# Altium integrated library Xilinx XC4000E.IntLib: 265 symbols (part 24 of 27)
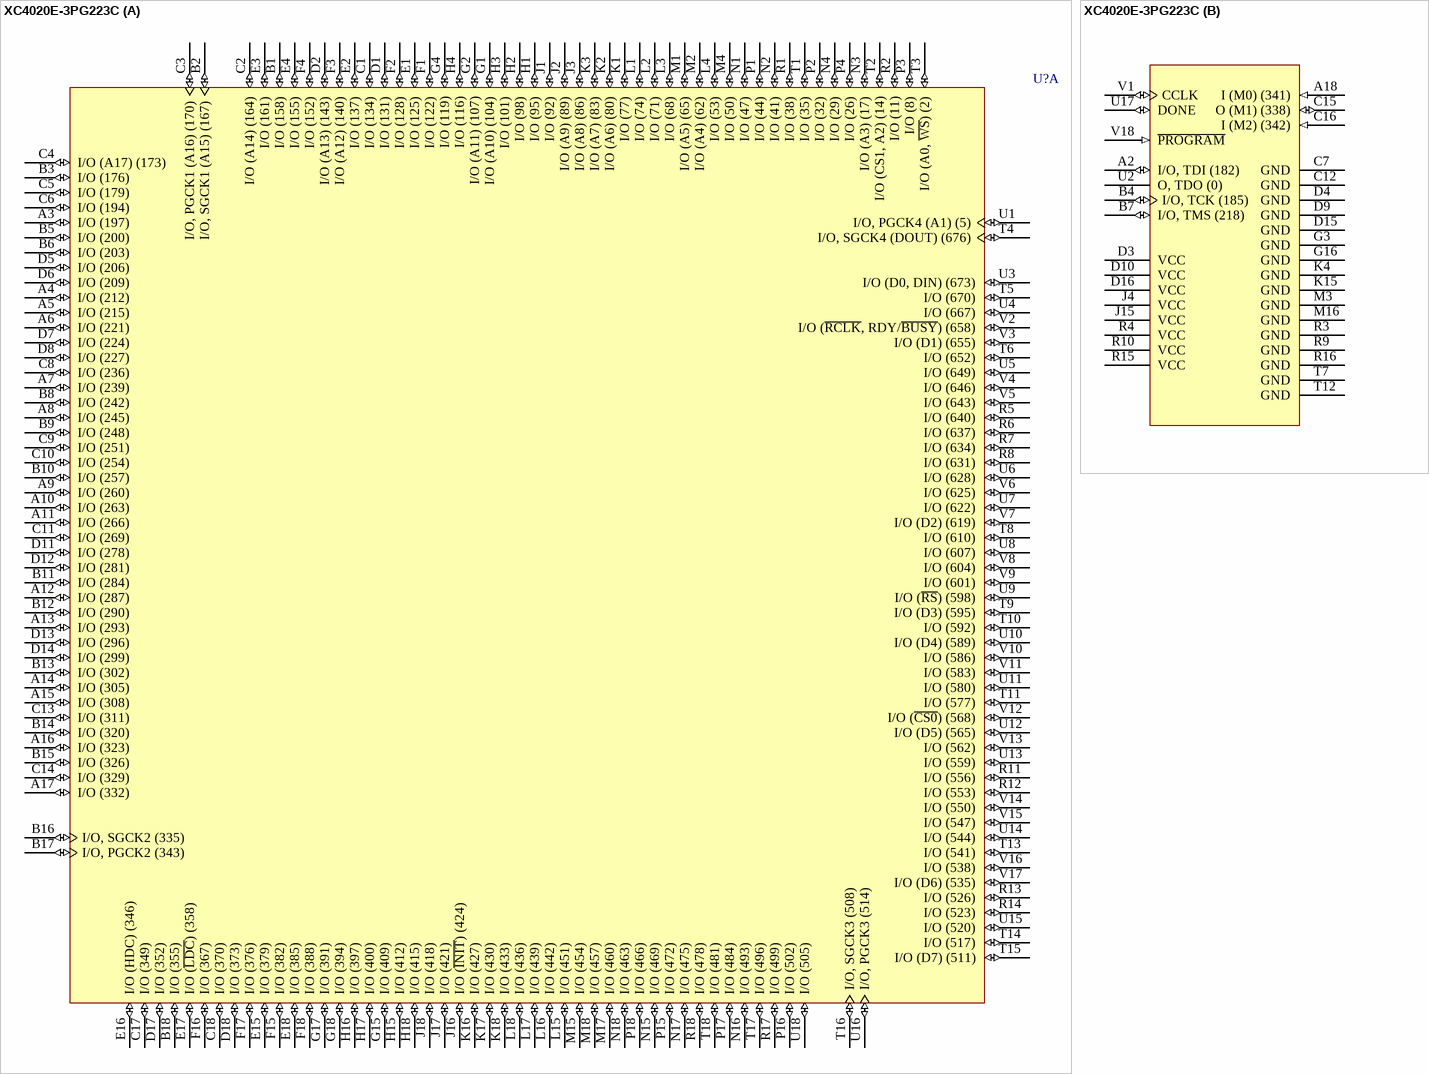
[diagram p294: symbol XC4020E-3PG223C]

## XC4020E-3PG223C
designator U?
XC4000E FPGA, 192 I/Os, 223-Pin PGA, Speed Grade 3, Commercial Grade; Published: 28-Feb-2003; LatestRevisionDate: 04-Mar-2005; LatestRevisionNote: Stylized 3D Model Added.; DatasheetVersion: ver1.6, May-1999; PackageVersion: ver1.0, Jun-2000; PackageReference: PG223; Publisher: Altium Limited; PackageDescription: 223-Pin Ceramic Pin Grid Array (PG223); Supplier 1: Digi-Key; Supplier Part Number 1: XC4020E-3PG223C-ND; ComponentLink1Description: XC4000E Datasheet; ComponentLink1URL: http://www.xilinx.com/support/documentation/data_sheets/4000.pdf; ComponentLink2Description: Discontinuation Notice; ComponentLink2URL: http://www.xilinx.com/support/documentation/customer_notices/pdn2002-03.pdf; ComponentLink3Description: PG223 Package Drawing; ComponentLink3URL: http://www.xilinx.com/support/documentation/package_specs/pg223.pdf; ComponentLink4Description: XC4000 Documents; ComponentLink4URL: http://www.xilinx.com/support/documentation/xc4000.htm; ComponentLink5Description: Xilinx.com Home; ComponentLink5URL: http://www.xilinx.com
footprint PG223 (PGA, 223-Leads, Body 47x47mm, Pitch 2.54mm)
part A pins: A3 I/O (197) (io), A4 I/O (212) (io), A5 I/O (215) (io), A6 I/O (221) (io), A7 I/O (239) (io), A8 I/O (245) (io), A9 I/O (260) (io), A10 I/O (263) (io), A11 I/O (266) (io), A12 I/O (287) (io), A13 I/O (293) (io), A14 I/O (305) (io), A15 I/O (308) (io), A16 I/O (323) (io), A17 I/O (332) (io), B1 I/O (158) (io), B2 I/O, SGCK1 (A15) (167) (io), B3 I/O (176) (io), B5 I/O (200) (io), B6 I/O (203) (io), B8 I/O (242) (io), B9 I/O (248) (io), B10 I/O (257) (io), B11 I/O (284) (io), B12 I/O (290) (io), B13 I/O (302) (io), B14 I/O (320) (io), B15 I/O (326) (io), B16 I/O, SGCK2 (335) (io), B17 I/O, PGCK2 (343) (io), B18 I/O (355) (io), C1 I/O (134) (io), C2 I/O (A14) (164) (io), C3 I/O, PGCK1 (A16) (170) (io), C4 I/O (A17) (173) (io), C5 I/O (179) (io), C6 I/O (194) (io), C8 I/O (236) (io), C9 I/O (251) (io), C10 I/O (254) (io), C11 I/O (269) (io), C13 I/O (311) (io), C14 I/O (329) (io), C17 I/O (349) (io), C18 I/O (370) (io), D1 I/O (131) (io), D2 I/O (A13) (143) (io), D5 I/O (206) (io), D6 I/O (209) (io), D7 I/O (224) (io), D8 I/O (227) (io), D11 I/O (278) (io), D12 I/O (281) (io), D13 I/O (296) (io), D14 I/O (299) (io), D17 I/O (352) (io), D18 I/O (373) (io), E1 I/O (125) (io), E2 I/O (137) (io), E3 I/O (161) (io), E4 I/O (155) (io), E15 I/O (379) (io), E16 I/O (HDC) (346) (io), E17 I/O (~{LDC}) (358) (io), E18 I/O (385) (io), F1 I/O (122) (io), F2 I/O (128) (io), F3 I/O (A12) (140) (io), F4 I/O (152) (io), F15 I/O (382) (io), F16 I/O (367) (io), F17 I/O (376) (io), F18 I/O (388) (io), G1 I/O (A10) (104) (io), G2 I/O (A11) (107) (io), G4 I/O (119) (io), G15 I/O (409) (io), G17 I/O (391) (io), G18 I/O (394) (io), H1 I/O (95) (io), H2 I/O (98) (io), H3 I/O (101) (io), H4 I/O (116) (io), H15 I/O (412) (io), H16 I/O (397) (io), H17 I/O (400) (io), H18 I/O (415) (io), J1 I/O (92) (io), J2 I/O (A9) (89) (io), J3 I/O (A8) (86) (io), J16 I/O (~{INIT}) (424) (io), J17 I/O (421) (io), J18 I/O (418) (io), K1 I/O (77) (io), K2 I/O (A6) (80) (io), K3 I/O (A7) (83) (io), K16 I/O (427) (io), K17 I/O (430) (io), K18 I/O (433) (io), L1 I/O (74) (io), L2 I/O (71) (io), L3 I/O (68) (io), L4 I/O (53) (io), L15 I/O (451) (io), L16 I/O (442) (io), L17 I/O (439) (io), L18 I/O (436) (io), M1 I/O (A5) (65) (io), M2 I/O (A4) (62) (io), M4 I/O (50) (io), M15 I/O (454) (io), M17 I/O (460) (io), M18 I/O (457) (io), N1 I/O (47) (io), N2 I/O (41) (io), N3 I/O (A3) (17) (io), N4 I/O (29) (io), N15 I/O (469) (io), N16 I/O (493) (io), N17 I/O (475) (io), N18 I/O (463) (io), P1 I/O (44) (io), P2 I/O (32) (io), P3 I/O (8) (io), P4 I/O (26) (io), P15 I/O (472) (io), P16 I/O (502) (io), P17 I/O (484) (io), P18 I/O (466) (io), R1 I/O (38) (io), R2 I/O (11) (io), R5 I/O (640) (io), R6 I/O (637) (io), R7 I/O (634) (io), R8 I/O (631) (io), R11 I/O (556) (io), R12 I/O (553) (io), R13 I/O (526) (io), R14 I/O (523) (io), R17 I/O (499) (io), R18 I/O (478) (io), T1 I/O (35) (io), T2 I/O (CS1, A2) (14) (io), T3 I/O (A0, ~{WS}) (2) (io), T4 I/O, SGCK4 (DOUT) (676) (io), T5 I/O (670) (io), T6 I/O (652) (io), T8 I/O (610) (io), T9 I/O (D3) (595) (io), T10 I/O (592) (io), T11 I/O (577) (io), T13 I/O (541) (io), T14 I/O (517) (io), T15 I/O (D7) (511) (io), T16 I/O, SGCK3 (508) (io), T17 I/O (496) (io), T18 I/O (481) (io), U1 I/O, PGCK4 (A1) (5) (io), U3 I/O (D0, DIN) (673) (io), U4 I/O (667) (io), U5 I/O (649) (io), U6 I/O (628) (io), U7 I/O (622) (io), U8 I/O (607) (io), U9 I/O (~{RS}) (598) (io), U10 I/O (D4) (589) (io), U11 I/O (580) (io), U12 I/O (D5) (565) (io), U13 I/O (559) (io), U14 I/O (544) (io), U15 I/O (520) (io), U16 I/O, PGCK3 (514) (io), U18 I/O (505) (io), V2 I/O (~{RCLK}, RDY/~{BUSY}) (658) (io), V3 I/O (D1) (655) (io), V4 I/O (646) (io), V5 I/O (643) (io), V6 I/O (625) (io), V7 I/O (D2) (619) (io), V8 I/O (604) (io), V9 I/O (601) (io), V10 I/O (586) (io), V11 I/O (583) (io), V12 I/O (~{CS0}) (568) (io), V13 I/O (562) (io), V14 I/O (550) (io), V15 I/O (547) (io), V16 I/O (538) (io), V17 I/O (D6) (535) (io)
part B pins: A2 I/O, TDI (182) (io), A18 I (M0) (341) (in), B4 I/O, TCK (185) (io), B7 I/O, TMS (218) (io), C7 GND (power), C12 GND (power), C15 O (M1) (338) (io), C16 I (M2) (342) (in), D3 VCC (power), D4 GND (power), D9 GND (power), D10 VCC (power), D15 GND (power), D16 VCC (power), G3 GND (power), G16 GND (power), J4 VCC (power), J15 VCC (power), K4 GND (power), K15 GND (power), M3 GND (power), M16 GND (power), R3 GND (power), R4 VCC (power), R9 GND (power), R10 VCC (power), R15 VCC (power), R16 GND (power), T7 GND (power), T12 GND (power), U2 O, TDO (0) (hiz), U17 DONE (io), V1 CCLK (io), V18 ~{PROGRAM} (in)

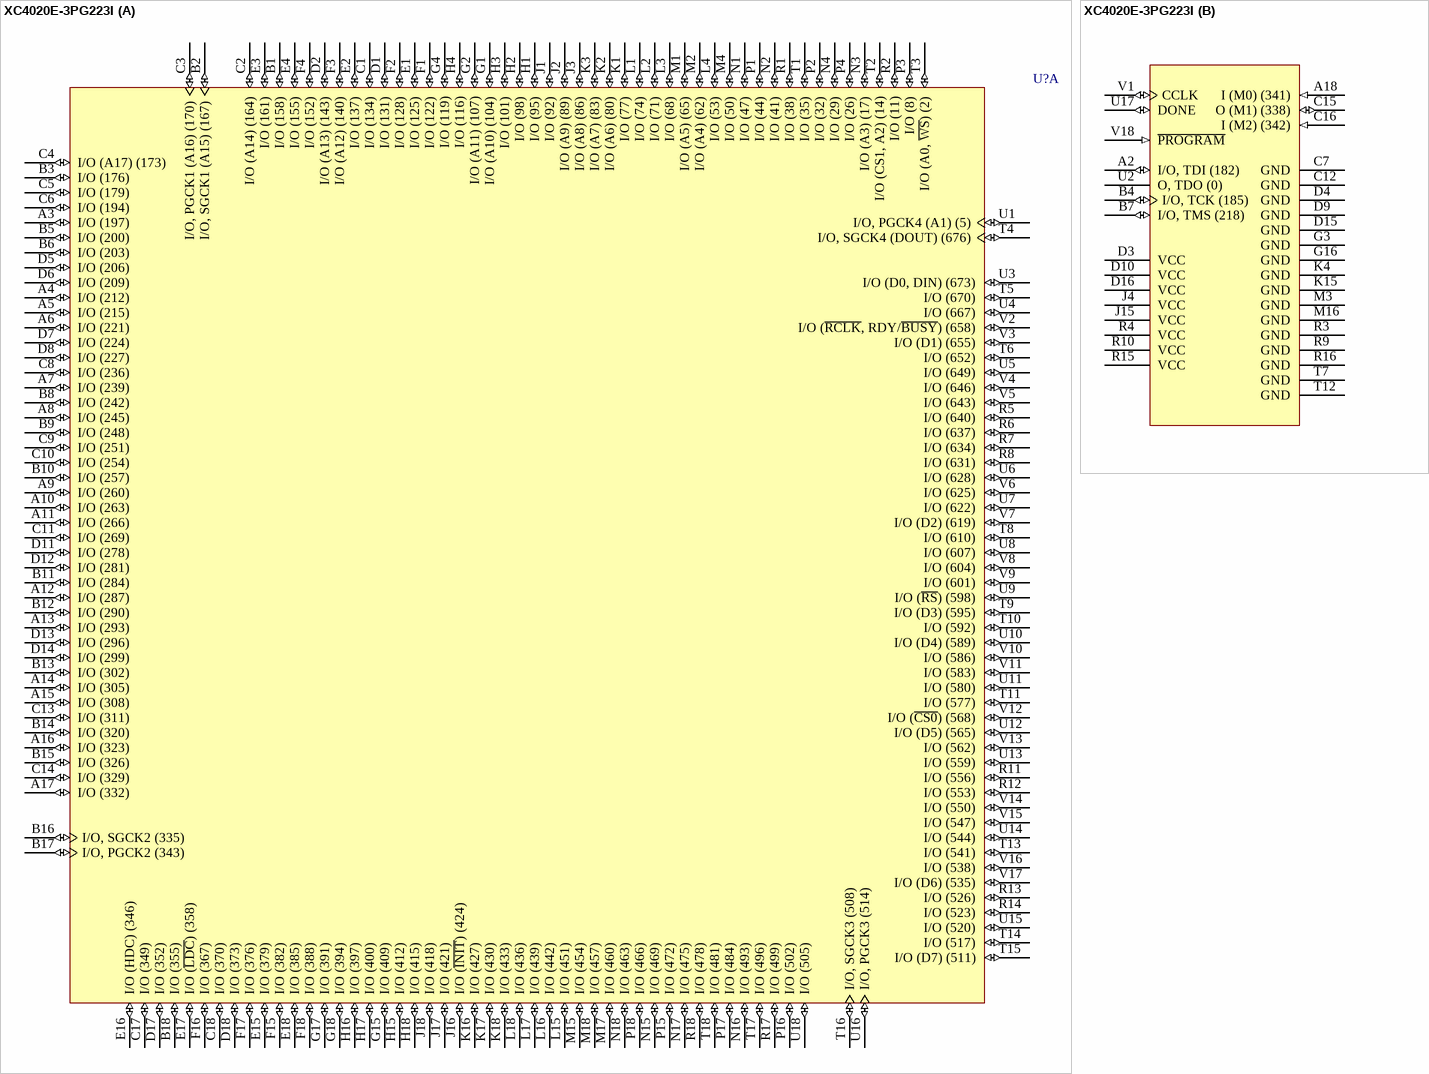
[diagram p234: symbol XC4020E-3PG223I]

## XC4020E-3PG223I
designator U?
XC4000E FPGA, 192 I/Os, 223-Pin PGA, Speed Grade 3, Industrial Grade; Published: 28-Feb-2003; LatestRevisionDate: 04-Mar-2005; LatestRevisionNote: Stylized 3D Model Added.; DatasheetVersion: ver1.6, May-1999; PackageVersion: ver1.0, Jun-2000; PackageReference: PG223; Publisher: Altium Limited; PackageDescription: 223-Pin Ceramic Pin Grid Array (PG223); Supplier 1: Digi-Key; Supplier Part Number 1: XC4020E-3PG223I-ND; ComponentLink1Description: XC4000E Datasheet; ComponentLink1URL: http://www.xilinx.com/support/documentation/data_sheets/4000.pdf; ComponentLink2Description: Discontinuation Notice; ComponentLink2URL: http://www.xilinx.com/support/documentation/customer_notices/pdn2002-03.pdf; ComponentLink3Description: PG223 Package Drawing; ComponentLink3URL: http://www.xilinx.com/support/documentation/package_specs/pg223.pdf; ComponentLink4Description: XC4000 Documents; ComponentLink4URL: http://www.xilinx.com/support/documentation/xc4000.htm; ComponentLink5Description: Xilinx.com Home; ComponentLink5URL: http://www.xilinx.com
footprint PG223 (PGA, 223-Leads, Body 47x47mm, Pitch 2.54mm)
part A pins: A3 I/O (197) (io), A4 I/O (212) (io), A5 I/O (215) (io), A6 I/O (221) (io), A7 I/O (239) (io), A8 I/O (245) (io), A9 I/O (260) (io), A10 I/O (263) (io), A11 I/O (266) (io), A12 I/O (287) (io), A13 I/O (293) (io), A14 I/O (305) (io), A15 I/O (308) (io), A16 I/O (323) (io), A17 I/O (332) (io), B1 I/O (158) (io), B2 I/O, SGCK1 (A15) (167) (io), B3 I/O (176) (io), B5 I/O (200) (io), B6 I/O (203) (io), B8 I/O (242) (io), B9 I/O (248) (io), B10 I/O (257) (io), B11 I/O (284) (io), B12 I/O (290) (io), B13 I/O (302) (io), B14 I/O (320) (io), B15 I/O (326) (io), B16 I/O, SGCK2 (335) (io), B17 I/O, PGCK2 (343) (io), B18 I/O (355) (io), C1 I/O (134) (io), C2 I/O (A14) (164) (io), C3 I/O, PGCK1 (A16) (170) (io), C4 I/O (A17) (173) (io), C5 I/O (179) (io), C6 I/O (194) (io), C8 I/O (236) (io), C9 I/O (251) (io), C10 I/O (254) (io), C11 I/O (269) (io), C13 I/O (311) (io), C14 I/O (329) (io), C17 I/O (349) (io), C18 I/O (370) (io), D1 I/O (131) (io), D2 I/O (A13) (143) (io), D5 I/O (206) (io), D6 I/O (209) (io), D7 I/O (224) (io), D8 I/O (227) (io), D11 I/O (278) (io), D12 I/O (281) (io), D13 I/O (296) (io), D14 I/O (299) (io), D17 I/O (352) (io), D18 I/O (373) (io), E1 I/O (125) (io), E2 I/O (137) (io), E3 I/O (161) (io), E4 I/O (155) (io), E15 I/O (379) (io), E16 I/O (HDC) (346) (io), E17 I/O (~{LDC}) (358) (io), E18 I/O (385) (io), F1 I/O (122) (io), F2 I/O (128) (io), F3 I/O (A12) (140) (io), F4 I/O (152) (io), F15 I/O (382) (io), F16 I/O (367) (io), F17 I/O (376) (io), F18 I/O (388) (io), G1 I/O (A10) (104) (io), G2 I/O (A11) (107) (io), G4 I/O (119) (io), G15 I/O (409) (io), G17 I/O (391) (io), G18 I/O (394) (io), H1 I/O (95) (io), H2 I/O (98) (io), H3 I/O (101) (io), H4 I/O (116) (io), H15 I/O (412) (io), H16 I/O (397) (io), H17 I/O (400) (io), H18 I/O (415) (io), J1 I/O (92) (io), J2 I/O (A9) (89) (io), J3 I/O (A8) (86) (io), J16 I/O (~{INIT}) (424) (io), J17 I/O (421) (io), J18 I/O (418) (io), K1 I/O (77) (io), K2 I/O (A6) (80) (io), K3 I/O (A7) (83) (io), K16 I/O (427) (io), K17 I/O (430) (io), K18 I/O (433) (io), L1 I/O (74) (io), L2 I/O (71) (io), L3 I/O (68) (io), L4 I/O (53) (io), L15 I/O (451) (io), L16 I/O (442) (io), L17 I/O (439) (io), L18 I/O (436) (io), M1 I/O (A5) (65) (io), M2 I/O (A4) (62) (io), M4 I/O (50) (io), M15 I/O (454) (io), M17 I/O (460) (io), M18 I/O (457) (io), N1 I/O (47) (io), N2 I/O (41) (io), N3 I/O (A3) (17) (io), N4 I/O (29) (io), N15 I/O (469) (io), N16 I/O (493) (io), N17 I/O (475) (io), N18 I/O (463) (io), P1 I/O (44) (io), P2 I/O (32) (io), P3 I/O (8) (io), P4 I/O (26) (io), P15 I/O (472) (io), P16 I/O (502) (io), P17 I/O (484) (io), P18 I/O (466) (io), R1 I/O (38) (io), R2 I/O (11) (io), R5 I/O (640) (io), R6 I/O (637) (io), R7 I/O (634) (io), R8 I/O (631) (io), R11 I/O (556) (io), R12 I/O (553) (io), R13 I/O (526) (io), R14 I/O (523) (io), R17 I/O (499) (io), R18 I/O (478) (io), T1 I/O (35) (io), T2 I/O (CS1, A2) (14) (io), T3 I/O (A0, ~{WS}) (2) (io), T4 I/O, SGCK4 (DOUT) (676) (io), T5 I/O (670) (io), T6 I/O (652) (io), T8 I/O (610) (io), T9 I/O (D3) (595) (io), T10 I/O (592) (io), T11 I/O (577) (io), T13 I/O (541) (io), T14 I/O (517) (io), T15 I/O (D7) (511) (io), T16 I/O, SGCK3 (508) (io), T17 I/O (496) (io), T18 I/O (481) (io), U1 I/O, PGCK4 (A1) (5) (io), U3 I/O (D0, DIN) (673) (io), U4 I/O (667) (io), U5 I/O (649) (io), U6 I/O (628) (io), U7 I/O (622) (io), U8 I/O (607) (io), U9 I/O (~{RS}) (598) (io), U10 I/O (D4) (589) (io), U11 I/O (580) (io), U12 I/O (D5) (565) (io), U13 I/O (559) (io), U14 I/O (544) (io), U15 I/O (520) (io), U16 I/O, PGCK3 (514) (io), U18 I/O (505) (io), V2 I/O (~{RCLK}, RDY/~{BUSY}) (658) (io), V3 I/O (D1) (655) (io), V4 I/O (646) (io), V5 I/O (643) (io), V6 I/O (625) (io), V7 I/O (D2) (619) (io), V8 I/O (604) (io), V9 I/O (601) (io), V10 I/O (586) (io), V11 I/O (583) (io), V12 I/O (~{CS0}) (568) (io), V13 I/O (562) (io), V14 I/O (550) (io), V15 I/O (547) (io), V16 I/O (538) (io), V17 I/O (D6) (535) (io)
part B pins: A2 I/O, TDI (182) (io), A18 I (M0) (341) (in), B4 I/O, TCK (185) (io), B7 I/O, TMS (218) (io), C7 GND (power), C12 GND (power), C15 O (M1) (338) (io), C16 I (M2) (342) (in), D3 VCC (power), D4 GND (power), D9 GND (power), D10 VCC (power), D15 GND (power), D16 VCC (power), G3 GND (power), G16 GND (power), J4 VCC (power), J15 VCC (power), K4 GND (power), K15 GND (power), M3 GND (power), M16 GND (power), R3 GND (power), R4 VCC (power), R9 GND (power), R10 VCC (power), R15 VCC (power), R16 GND (power), T7 GND (power), T12 GND (power), U2 O, TDO (0) (hiz), U17 DONE (io), V1 CCLK (io), V18 ~{PROGRAM} (in)

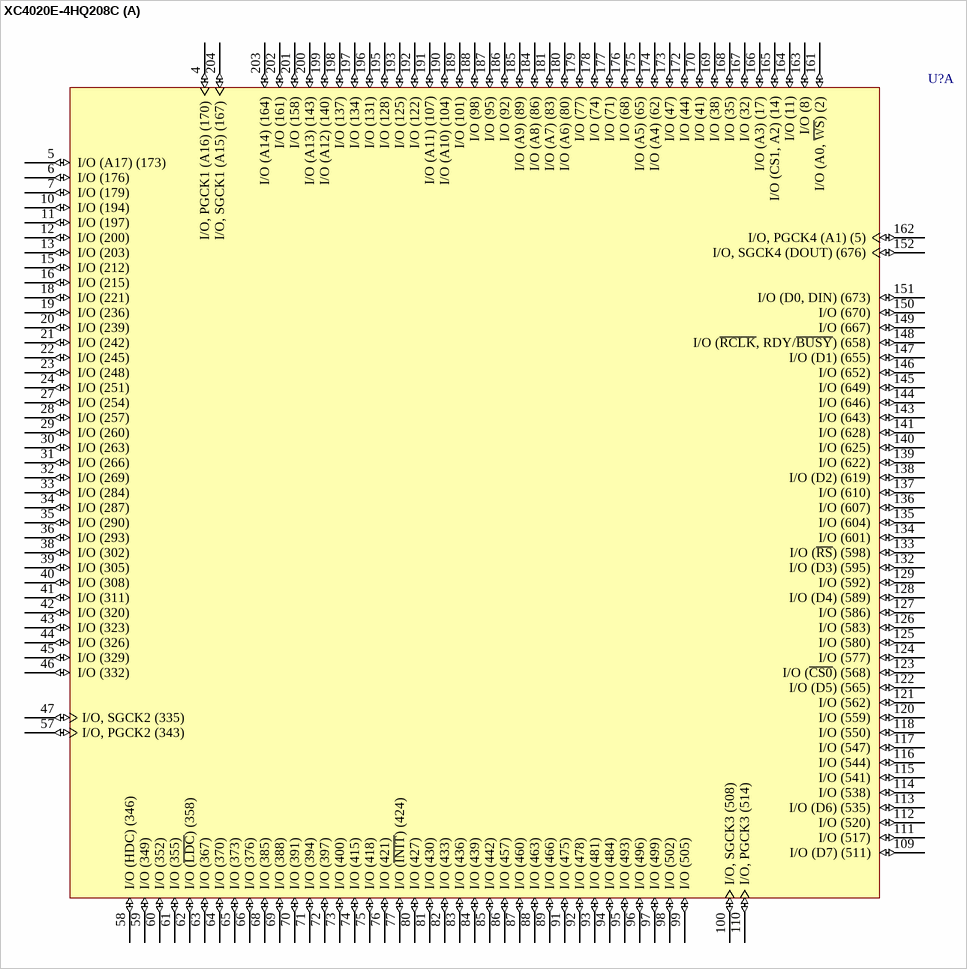
[diagram p235: symbol XC4020E-4HQ208C]

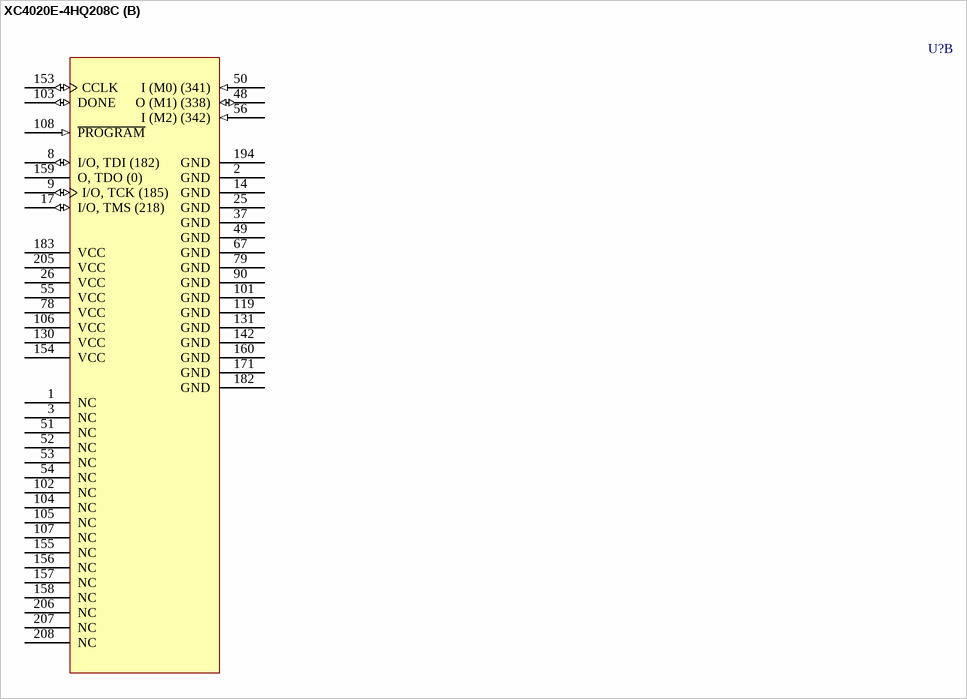
[diagram p236: symbol XC4020E-4HQ208C]

## XC4020E-4HQ208C
designator U?
XC4000E FPGA, 160 I/Os, 208-Pin HQFP, Speed Grade 4, Commercial Grade; Published: 28-Feb-2003; LatestRevisionDate: 13-Apr-2006; LatestRevisionNote: IPC-7351 Footprint Added.; DatasheetVersion: ver1.6, May-1999; PackageVersion: ver1.2, Jun-2004; PackageReference: HQ208; Publisher: Altium Limited; PackageDescription: 208-Pin Heat Sink Quad Flat Pack (HQ208); Supplier 1: Digi-Key; Supplier Part Number 1: XC4020E-4HQ208C-ND; Code_JEDEC: MS-029-FA-1; ComponentLink1Description: XC4000E Datasheet; ComponentLink1URL: http://www.xilinx.com/support/documentation/data_sheets/4000.pdf; ComponentLink2Description: Discontinuation Notice; ComponentLink2URL: http://www.xilinx.com/support/documentation/customer_notices/xcn07003.pdf; ComponentLink3Description: HQ208 Package Drawing; ComponentLink3URL: http://www.xilinx.com/support/documentation/package_specs/hq208.pdf; ComponentLink4Description: XC4000 Documents; ComponentLink4URL: http://www.xilinx.com/support/documentation/xc4000.htm; ComponentLink5Description: Xilinx.com Home; ComponentLink5URL: http://www.xilinx.com
footprint HQ208_N (Shrink QFP, 208-Leads, Body 28x28mm, Pitch 0.5mm, IPC Medium Density)
footprint HQ208_L (Shrink QFP, 208-Leads, Body 28x28mm, Pitch 0.5mm, IPC High Density)
footprint HQ208_M (Shrink QFP, 208-Leads, Body 28x28mm, Pitch 0.5mm, IPC Low Density)
part A pins: 4 I/O, PGCK1 (A16) (170) (io), 5 I/O (A17) (173) (io), 6 I/O (176) (io), 7 I/O (179) (io), 10 I/O (194) (io), 11 I/O (197) (io), 12 I/O (200) (io), 13 I/O (203) (io), 15 I/O (212) (io), 16 I/O (215) (io), 18 I/O (221) (io), 19 I/O (236) (io), 20 I/O (239) (io), 21 I/O (242) (io), 22 I/O (245) (io), 23 I/O (248) (io), 24 I/O (251) (io), 27 I/O (254) (io), 28 I/O (257) (io), 29 I/O (260) (io), 30 I/O (263) (io), 31 I/O (266) (io), 32 I/O (269) (io), 33 I/O (284) (io), 34 I/O (287) (io), 35 I/O (290) (io), 36 I/O (293) (io), 38 I/O (302) (io), 39 I/O (305) (io), 40 I/O (308) (io), 41 I/O (311) (io), 42 I/O (320) (io), 43 I/O (323) (io), 44 I/O (326) (io), 45 I/O (329) (io), 46 I/O (332) (io), 47 I/O, SGCK2 (335) (io), 57 I/O, PGCK2 (343) (io), 58 I/O (HDC) (346) (io), 59 I/O (349) (io), 60 I/O (352) (io), 61 I/O (355) (io), 62 I/O (~{LDC}) (358) (io), 63 I/O (367) (io), 64 I/O (370) (io), 65 I/O (373) (io), 66 I/O (376) (io), 68 I/O (385) (io), 69 I/O (388) (io), 70 I/O (391) (io), 71 I/O (394) (io), 72 I/O (397) (io), 73 I/O (400) (io), 74 I/O (415) (io), 75 I/O (418) (io), 76 I/O (421) (io), 77 I/O (~{INIT}) (424) (io), 80 I/O (427) (io), 81 I/O (430) (io), 82 I/O (433) (io), 83 I/O (436) (io), 84 I/O (439) (io), 85 I/O (442) (io), 86 I/O (457) (io), 87 I/O (460) (io), 88 I/O (463) (io), 89 I/O (466) (io), 91 I/O (475) (io), 92 I/O (478) (io), 93 I/O (481) (io), 94 I/O (484) (io), 95 I/O (493) (io), 96 I/O (496) (io), 97 I/O (499) (io), 98 I/O (502) (io), 99 I/O (505) (io), 100 I/O, SGCK3 (508) (io), 109 I/O (D7) (511) (io), 110 I/O, PGCK3 (514) (io), 111 I/O (517) (io), 112 I/O (520) (io), 113 I/O (D6) (535) (io), 114 I/O (538) (io), 115 I/O (541) (io), 116 I/O (544) (io), 117 I/O (547) (io), 118 I/O (550) (io), 120 I/O (559) (io), 121 I/O (562) (io), 122 I/O (D5) (565) (io), 123 I/O (~{CS0}) (568) (io), 124 I/O (577) (io), 125 I/O (580) (io), 126 I/O (583) (io), 127 I/O (586) (io), 128 I/O (D4) (589) (io), 129 I/O (592) (io), 132 I/O (D3) (595) (io), 133 I/O (~{RS}) (598) (io), 134 I/O (601) (io), 135 I/O (604) (io), 136 I/O (607) (io), 137 I/O (610) (io), 138 I/O (D2) (619) (io), 139 I/O (622) (io), 140 I/O (625) (io), 141 I/O (628) (io), 143 I/O (643) (io), 144 I/O (646) (io), 145 I/O (649) (io), 146 I/O (652) (io), 147 I/O (D1) (655) (io), 148 I/O (~{RCLK}, RDY/~{BUSY}) (658) (io), 149 I/O (667) (io), 150 I/O (670) (io), 151 I/O (D0, DIN) (673) (io), 152 I/O, SGCK4 (DOUT) (676) (io), 161 I/O (A0, ~{WS}) (2) (io), 162 I/O, PGCK4 (A1) (5) (io), 163 I/O (8) (io), 164 I/O (11) (io), 165 I/O (CS1, A2) (14) (io), 166 I/O (A3) (17) (io), 167 I/O (32) (io), 168 I/O (35) (io), 169 I/O (38) (io), 170 I/O (41) (io), 172 I/O (44) (io), 173 I/O (47) (io), 174 I/O (A4) (62) (io), 175 I/O (A5) (65) (io), 176 I/O (68) (io), 177 I/O (71) (io), 178 I/O (74) (io), 179 I/O (77) (io), 180 I/O (A6) (80) (io), 181 I/O (A7) (83) (io), 184 I/O (A8) (86) (io), 185 I/O (A9) (89) (io), 186 I/O (92) (io), 187 I/O (95) (io), 188 I/O (98) (io), 189 I/O (101) (io), 190 I/O (A10) (104) (io), 191 I/O (A11) (107) (io), 192 I/O (122) (io), 193 I/O (125) (io), 195 I/O (128) (io), 196 I/O (131) (io), 197 I/O (134) (io), 198 I/O (137) (io), 199 I/O (A12) (140) (io), 200 I/O (A13) (143) (io), 201 I/O (158) (io), 202 I/O (161) (io), 203 I/O (A14) (164) (io), 204 I/O, SGCK1 (A15) (167) (io)
part B pins: 1 NC, 2 GND (power), 3 NC, 8 I/O, TDI (182) (io), 9 I/O, TCK (185) (io), 14 GND (power), 17 I/O, TMS (218) (io), 25 GND (power), 26 VCC (power), 37 GND (power), 48 O (M1) (338) (io), 49 GND (power), 50 I (M0) (341) (in), 51 NC, 52 NC, 53 NC, 54 NC, 55 VCC (power), 56 I (M2) (342) (in), 67 GND (power), 78 VCC (power), 79 GND (power), 90 GND (power), 101 GND (power), 102 NC, 103 DONE (io), 104 NC, 105 NC, 106 VCC (power), 107 NC, 108 ~{PROGRAM} (in), 119 GND (power), 130 VCC (power), 131 GND (power), 142 GND (power), 153 CCLK (io), 154 VCC (power), 155 NC, 156 NC, 157 NC, 158 NC, 159 O, TDO (0) (hiz), 160 GND (power), 171 GND (power), 182 GND (power), 183 VCC (power), 194 GND (power), 205 VCC (power), 206 NC, 207 NC, 208 NC

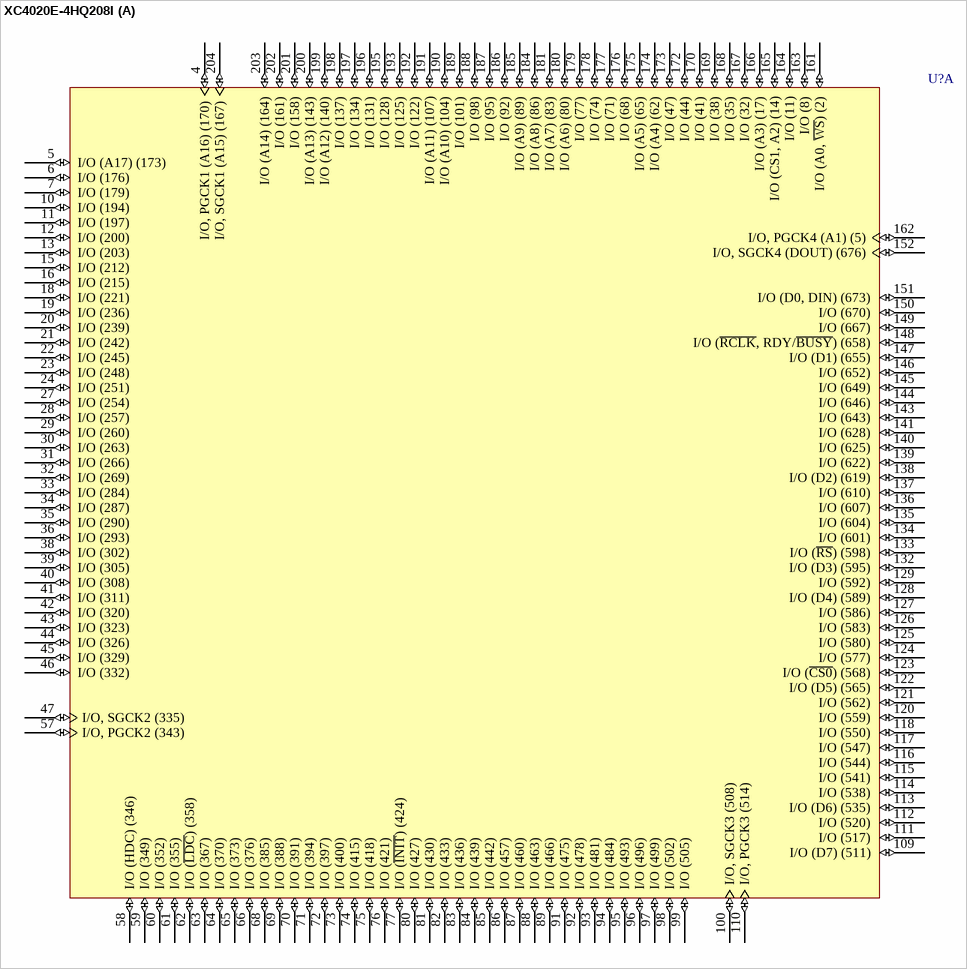
[diagram p237: symbol XC4020E-4HQ208I]

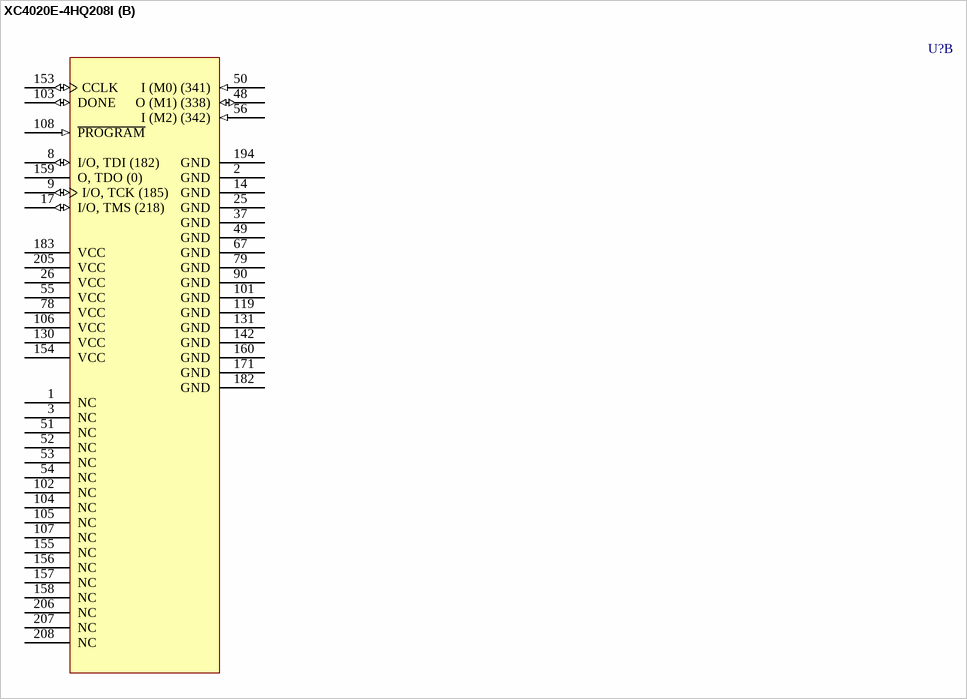
[diagram p238: symbol XC4020E-4HQ208I]

## XC4020E-4HQ208I
designator U?
XC4000E FPGA, 160 I/Os, 208-Pin HQFP, Speed Grade 4, Industrial Grade; Published: 28-Feb-2003; LatestRevisionDate: 13-Apr-2006; LatestRevisionNote: IPC-7351 Footprint Added.; DatasheetVersion: ver1.6, May-1999; PackageVersion: ver1.2, Jun-2004; PackageReference: HQ208; Publisher: Altium Limited; PackageDescription: 208-Pin Heat Sink Quad Flat Pack (HQ208); Supplier 1: Digi-Key; Supplier Part Number 1: XC4020E-4HQ208I-ND; Code_JEDEC: MS-029-FA-1; ComponentLink1Description: XC4000E Datasheet; ComponentLink1URL: http://www.xilinx.com/support/documentation/data_sheets/4000.pdf; ComponentLink2Description: Discontinuation Notice; ComponentLink2URL: http://www.xilinx.com/support/documentation/customer_notices/xcn07003.pdf; ComponentLink3Description: HQ208 Package Drawing; ComponentLink3URL: http://www.xilinx.com/support/documentation/package_specs/hq208.pdf; ComponentLink4Description: XC4000 Documents; ComponentLink4URL: http://www.xilinx.com/support/documentation/xc4000.htm; ComponentLink5Description: Xilinx.com Home; ComponentLink5URL: http://www.xilinx.com
footprint HQ208_N (Shrink QFP, 208-Leads, Body 28x28mm, Pitch 0.5mm, IPC Medium Density)
footprint HQ208_L (Shrink QFP, 208-Leads, Body 28x28mm, Pitch 0.5mm, IPC High Density)
footprint HQ208_M (Shrink QFP, 208-Leads, Body 28x28mm, Pitch 0.5mm, IPC Low Density)
part A pins: 4 I/O, PGCK1 (A16) (170) (io), 5 I/O (A17) (173) (io), 6 I/O (176) (io), 7 I/O (179) (io), 10 I/O (194) (io), 11 I/O (197) (io), 12 I/O (200) (io), 13 I/O (203) (io), 15 I/O (212) (io), 16 I/O (215) (io), 18 I/O (221) (io), 19 I/O (236) (io), 20 I/O (239) (io), 21 I/O (242) (io), 22 I/O (245) (io), 23 I/O (248) (io), 24 I/O (251) (io), 27 I/O (254) (io), 28 I/O (257) (io), 29 I/O (260) (io), 30 I/O (263) (io), 31 I/O (266) (io), 32 I/O (269) (io), 33 I/O (284) (io), 34 I/O (287) (io), 35 I/O (290) (io), 36 I/O (293) (io), 38 I/O (302) (io), 39 I/O (305) (io), 40 I/O (308) (io), 41 I/O (311) (io), 42 I/O (320) (io), 43 I/O (323) (io), 44 I/O (326) (io), 45 I/O (329) (io), 46 I/O (332) (io), 47 I/O, SGCK2 (335) (io), 57 I/O, PGCK2 (343) (io), 58 I/O (HDC) (346) (io), 59 I/O (349) (io), 60 I/O (352) (io), 61 I/O (355) (io), 62 I/O (~{LDC}) (358) (io), 63 I/O (367) (io), 64 I/O (370) (io), 65 I/O (373) (io), 66 I/O (376) (io), 68 I/O (385) (io), 69 I/O (388) (io), 70 I/O (391) (io), 71 I/O (394) (io), 72 I/O (397) (io), 73 I/O (400) (io), 74 I/O (415) (io), 75 I/O (418) (io), 76 I/O (421) (io), 77 I/O (~{INIT}) (424) (io), 80 I/O (427) (io), 81 I/O (430) (io), 82 I/O (433) (io), 83 I/O (436) (io), 84 I/O (439) (io), 85 I/O (442) (io), 86 I/O (457) (io), 87 I/O (460) (io), 88 I/O (463) (io), 89 I/O (466) (io), 91 I/O (475) (io), 92 I/O (478) (io), 93 I/O (481) (io), 94 I/O (484) (io), 95 I/O (493) (io), 96 I/O (496) (io), 97 I/O (499) (io), 98 I/O (502) (io), 99 I/O (505) (io), 100 I/O, SGCK3 (508) (io), 109 I/O (D7) (511) (io), 110 I/O, PGCK3 (514) (io), 111 I/O (517) (io), 112 I/O (520) (io), 113 I/O (D6) (535) (io), 114 I/O (538) (io), 115 I/O (541) (io), 116 I/O (544) (io), 117 I/O (547) (io), 118 I/O (550) (io), 120 I/O (559) (io), 121 I/O (562) (io), 122 I/O (D5) (565) (io), 123 I/O (~{CS0}) (568) (io), 124 I/O (577) (io), 125 I/O (580) (io), 126 I/O (583) (io), 127 I/O (586) (io), 128 I/O (D4) (589) (io), 129 I/O (592) (io), 132 I/O (D3) (595) (io), 133 I/O (~{RS}) (598) (io), 134 I/O (601) (io), 135 I/O (604) (io), 136 I/O (607) (io), 137 I/O (610) (io), 138 I/O (D2) (619) (io), 139 I/O (622) (io), 140 I/O (625) (io), 141 I/O (628) (io), 143 I/O (643) (io), 144 I/O (646) (io), 145 I/O (649) (io), 146 I/O (652) (io), 147 I/O (D1) (655) (io), 148 I/O (~{RCLK}, RDY/~{BUSY}) (658) (io), 149 I/O (667) (io), 150 I/O (670) (io), 151 I/O (D0, DIN) (673) (io), 152 I/O, SGCK4 (DOUT) (676) (io), 161 I/O (A0, ~{WS}) (2) (io), 162 I/O, PGCK4 (A1) (5) (io), 163 I/O (8) (io), 164 I/O (11) (io), 165 I/O (CS1, A2) (14) (io), 166 I/O (A3) (17) (io), 167 I/O (32) (io), 168 I/O (35) (io), 169 I/O (38) (io), 170 I/O (41) (io), 172 I/O (44) (io), 173 I/O (47) (io), 174 I/O (A4) (62) (io), 175 I/O (A5) (65) (io), 176 I/O (68) (io), 177 I/O (71) (io), 178 I/O (74) (io), 179 I/O (77) (io), 180 I/O (A6) (80) (io), 181 I/O (A7) (83) (io), 184 I/O (A8) (86) (io), 185 I/O (A9) (89) (io), 186 I/O (92) (io), 187 I/O (95) (io), 188 I/O (98) (io), 189 I/O (101) (io), 190 I/O (A10) (104) (io), 191 I/O (A11) (107) (io), 192 I/O (122) (io), 193 I/O (125) (io), 195 I/O (128) (io), 196 I/O (131) (io), 197 I/O (134) (io), 198 I/O (137) (io), 199 I/O (A12) (140) (io), 200 I/O (A13) (143) (io), 201 I/O (158) (io), 202 I/O (161) (io), 203 I/O (A14) (164) (io), 204 I/O, SGCK1 (A15) (167) (io)
part B pins: 1 NC, 2 GND (power), 3 NC, 8 I/O, TDI (182) (io), 9 I/O, TCK (185) (io), 14 GND (power), 17 I/O, TMS (218) (io), 25 GND (power), 26 VCC (power), 37 GND (power), 48 O (M1) (338) (io), 49 GND (power), 50 I (M0) (341) (in), 51 NC, 52 NC, 53 NC, 54 NC, 55 VCC (power), 56 I (M2) (342) (in), 67 GND (power), 78 VCC (power), 79 GND (power), 90 GND (power), 101 GND (power), 102 NC, 103 DONE (io), 104 NC, 105 NC, 106 VCC (power), 107 NC, 108 ~{PROGRAM} (in), 119 GND (power), 130 VCC (power), 131 GND (power), 142 GND (power), 153 CCLK (io), 154 VCC (power), 155 NC, 156 NC, 157 NC, 158 NC, 159 O, TDO (0) (hiz), 160 GND (power), 171 GND (power), 182 GND (power), 183 VCC (power), 194 GND (power), 205 VCC (power), 206 NC, 207 NC, 208 NC

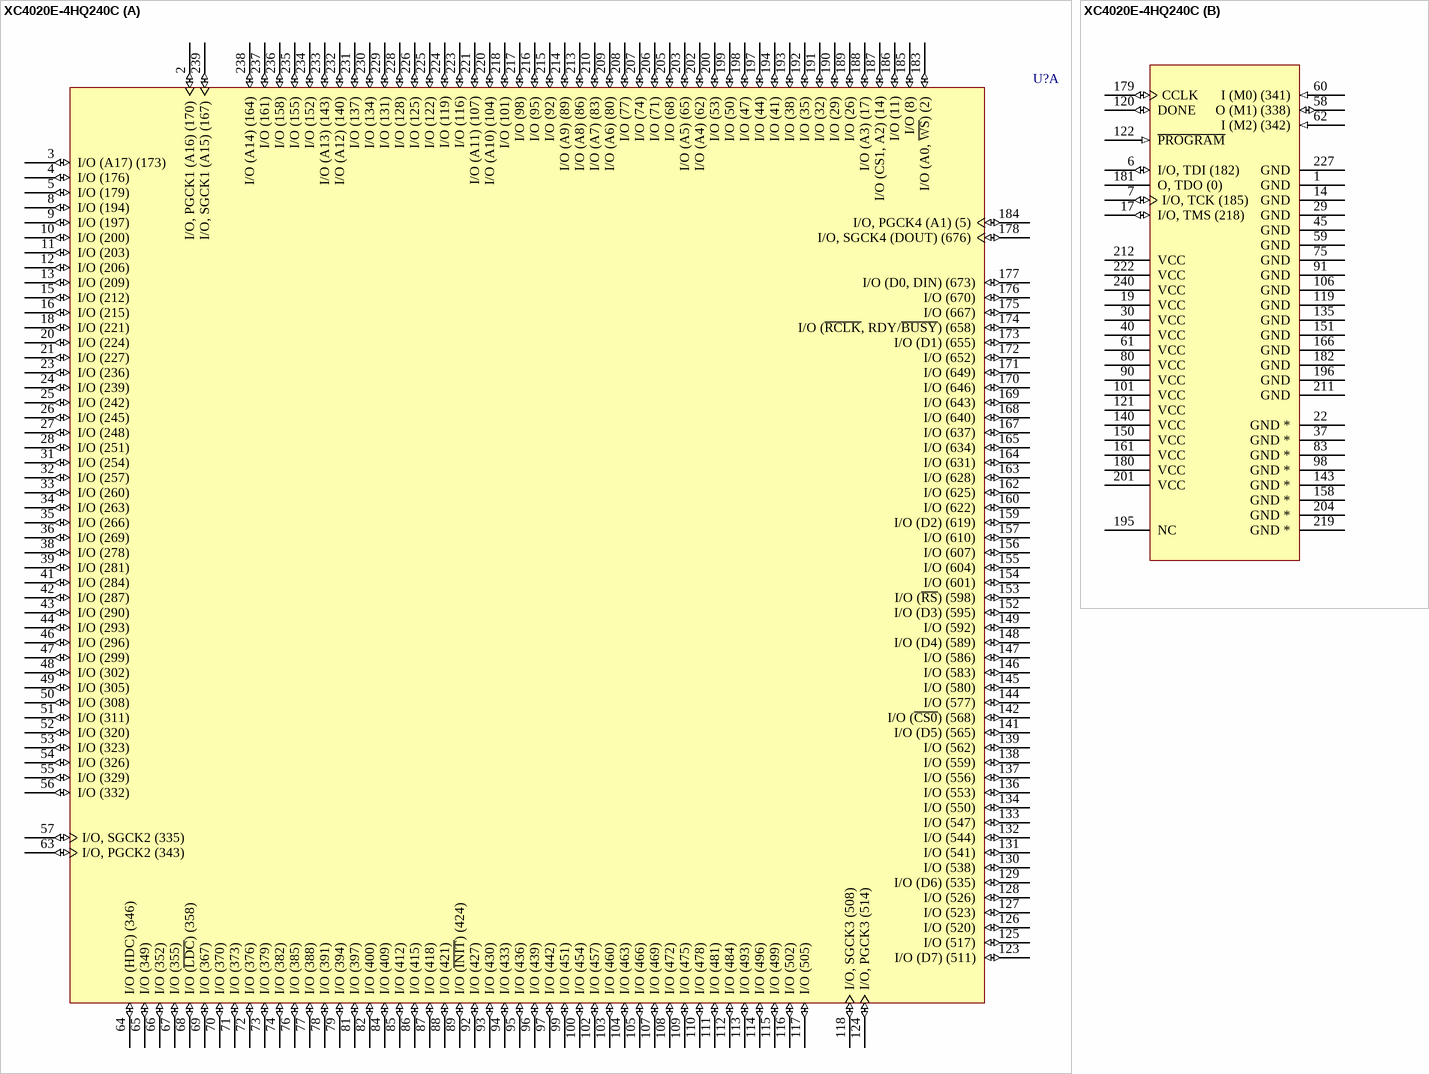
[diagram p239: symbol XC4020E-4HQ240C]

## XC4020E-4HQ240C
designator U?
XC4000E FPGA, 193 I/Os, 240-Pin HQFP, Speed Grade 4, Commercial Grade; Published: 28-Feb-2003; LatestRevisionDate: 13-Apr-2006; LatestRevisionNote: IPC-7351 Footprint Added.; DatasheetVersion: ver1.6, May-1999; PackageVersion: ver1.2, Jun-2004; PackageReference: HQ240; Publisher: Altium Limited; PackageDescription: 240-Pin Heat Sink Quad Flat Pack (HQ240); Supplier 1: Digi-Key; Supplier Part Number 1: XC4020E-4HQ240C-ND; Code_JEDEC: MO-143-GA; ComponentLink1Description: XC4000E Datasheet; ComponentLink1URL: http://www.xilinx.com/support/documentation/data_sheets/4000.pdf; ComponentLink2Description: Discontinuation Notice; ComponentLink2URL: http://www.xilinx.com/support/documentation/customer_notices/xcn09001.pdf; ComponentLink3Description: HQ240 Package Drawing; ComponentLink3URL: http://www.xilinx.com/support/documentation/package_specs/hq240.pdf; ComponentLink4Description: XC4000 Documents; ComponentLink4URL: http://www.xilinx.com/support/documentation/xc4000.htm; ComponentLink5Description: Xilinx.com Home; ComponentLink5URL: http://www.xilinx.com
footprint HQ240_N (Shrink QFP, 240-Leads, Body 32x32mm, Pitch 0.5mm, IPC Medium Density)
footprint HQ240_L (Shrink QFP, 240-Leads, Body 32x32mm, Pitch 0.5mm, IPC High Density)
footprint HQ240_M (Shrink QFP, 240-Leads, Body 32x32mm, Pitch 0.5mm, IPC Low Density)
part A pins: 2 I/O, PGCK1 (A16) (170) (io), 3 I/O (A17) (173) (io), 4 I/O (176) (io), 5 I/O (179) (io), 8 I/O (194) (io), 9 I/O (197) (io), 10 I/O (200) (io), 11 I/O (203) (io), 12 I/O (206) (io), 13 I/O (209) (io), 15 I/O (212) (io), 16 I/O (215) (io), 18 I/O (221) (io), 20 I/O (224) (io), 21 I/O (227) (io), 23 I/O (236) (io), 24 I/O (239) (io), 25 I/O (242) (io), 26 I/O (245) (io), 27 I/O (248) (io), 28 I/O (251) (io), 31 I/O (254) (io), 32 I/O (257) (io), 33 I/O (260) (io), 34 I/O (263) (io), 35 I/O (266) (io), 36 I/O (269) (io), 38 I/O (278) (io), 39 I/O (281) (io), 41 I/O (284) (io), 42 I/O (287) (io), 43 I/O (290) (io), 44 I/O (293) (io), 46 I/O (296) (io), 47 I/O (299) (io), 48 I/O (302) (io), 49 I/O (305) (io), 50 I/O (308) (io), 51 I/O (311) (io), 52 I/O (320) (io), 53 I/O (323) (io), 54 I/O (326) (io), 55 I/O (329) (io), 56 I/O (332) (io), 57 I/O, SGCK2 (335) (io), 63 I/O, PGCK2 (343) (io), 64 I/O (HDC) (346) (io), 65 I/O (349) (io), 66 I/O (352) (io), 67 I/O (355) (io), 68 I/O (~{LDC}) (358) (io), 69 I/O (367) (io), 70 I/O (370) (io), 71 I/O (373) (io), 72 I/O (376) (io), 73 I/O (379) (io), 74 I/O (382) (io), 76 I/O (385) (io), 77 I/O (388) (io), 78 I/O (391) (io), 79 I/O (394) (io), 81 I/O (397) (io), 82 I/O (400) (io), 84 I/O (409) (io), 85 I/O (412) (io), 86 I/O (415) (io), 87 I/O (418) (io), 88 I/O (421) (io), 89 I/O (~{INIT}) (424) (io), 92 I/O (427) (io), 93 I/O (430) (io), 94 I/O (433) (io), 95 I/O (436) (io), 96 I/O (439) (io), 97 I/O (442) (io), 99 I/O (451) (io), 100 I/O (454) (io), 102 I/O (457) (io), 103 I/O (460) (io), 104 I/O (463) (io), 105 I/O (466) (io), 107 I/O (469) (io), 108 I/O (472) (io), 109 I/O (475) (io), 110 I/O (478) (io), 111 I/O (481) (io), 112 I/O (484) (io), 113 I/O (493) (io), 114 I/O (496) (io), 115 I/O (499) (io), 116 I/O (502) (io), 117 I/O (505) (io), 118 I/O, SGCK3 (508) (io), 123 I/O (D7) (511) (io), 124 I/O, PGCK3 (514) (io), 125 I/O (517) (io), 126 I/O (520) (io), 127 I/O (523) (io), 128 I/O (526) (io), 129 I/O (D6) (535) (io), 130 I/O (538) (io), 131 I/O (541) (io), 132 I/O (544) (io), 133 I/O (547) (io), 134 I/O (550) (io), 136 I/O (553) (io), 137 I/O (556) (io), 138 I/O (559) (io), 139 I/O (562) (io), 141 I/O (D5) (565) (io), 142 I/O (~{CS0}) (568) (io), 144 I/O (577) (io), 145 I/O (580) (io), 146 I/O (583) (io), 147 I/O (586) (io), 148 I/O (D4) (589) (io), 149 I/O (592) (io), 152 I/O (D3) (595) (io), 153 I/O (~{RS}) (598) (io), 154 I/O (601) (io), 155 I/O (604) (io), 156 I/O (607) (io), 157 I/O (610) (io), 159 I/O (D2) (619) (io), 160 I/O (622) (io), 162 I/O (625) (io), 163 I/O (628) (io), 164 I/O (631) (io), 165 I/O (634) (io), 167 I/O (637) (io), 168 I/O (640) (io), 169 I/O (643) (io), 170 I/O (646) (io), 171 I/O (649) (io), 172 I/O (652) (io), 173 I/O (D1) (655) (io), 174 I/O (~{RCLK}, RDY/~{BUSY}) (658) (io), 175 I/O (667) (io), 176 I/O (670) (io), 177 I/O (D0, DIN) (673) (io), 178 I/O, SGCK4 (DOUT) (676) (io), 183 I/O (A0, ~{WS}) (2) (io), 184 I/O, PGCK4 (A1) (5) (io), 185 I/O (8) (io), 186 I/O (11) (io), 187 I/O (CS1, A2) (14) (io), 188 I/O (A3) (17) (io), 189 I/O (26) (io), 190 I/O (29) (io), 191 I/O (32) (io), 192 I/O (35) (io), 193 I/O (38) (io), 194 I/O (41) (io), 197 I/O (44) (io), 198 I/O (47) (io), 199 I/O (50) (io), 200 I/O (53) (io), 202 I/O (A4) (62) (io), 203 I/O (A5) (65) (io), 205 I/O (68) (io), 206 I/O (71) (io), 207 I/O (74) (io), 208 I/O (77) (io), 209 I/O (A6) (80) (io), 210 I/O (A7) (83) (io), 213 I/O (A8) (86) (io), 214 I/O (A9) (89) (io), 215 I/O (92) (io), 216 I/O (95) (io), 217 I/O (98) (io), 218 I/O (101) (io), 220 I/O (A10) (104) (io), 221 I/O (A11) (107) (io), 223 I/O (116) (io), 224 I/O (119) (io), 225 I/O (122) (io), 226 I/O (125) (io), 228 I/O (128) (io), 229 I/O (131) (io), 230 I/O (134) (io), 231 I/O (137) (io), 232 I/O (A12) (140) (io), 233 I/O (A13) (143) (io), 234 I/O (152) (io), 235 I/O (155) (io), 236 I/O (158) (io), 237 I/O (161) (io), 238 I/O (A14) (164) (io), 239 I/O, SGCK1 (A15) (167) (io)
part B pins: 1 GND (power), 6 I/O, TDI (182) (io), 7 I/O, TCK (185) (io), 14 GND (power), 17 I/O, TMS (218) (io), 19 VCC (power), 22 GND * (power), 29 GND (power), 30 VCC (power), 37 GND * (power), 40 VCC (power), 45 GND (power), 58 O (M1) (338) (io), 59 GND (power), 60 I (M0) (341) (in), 61 VCC (power), 62 I (M2) (342) (in), 75 GND (power), 80 VCC (power), 83 GND * (power), 90 VCC (power), 91 GND (power), 98 GND * (power), 101 VCC (power), 106 GND (power), 119 GND (power), 120 DONE (io), 121 VCC (power), 122 ~{PROGRAM} (in), 135 GND (power), 140 VCC (power), 143 GND * (power), 150 VCC (power), 151 GND (power), 158 GND * (power), 161 VCC (power), 166 GND (power), 179 CCLK (io), 180 VCC (power), 181 O, TDO (0) (hiz), 182 GND (power), 195 NC, 196 GND (power), 201 VCC (power), 204 GND * (power), 211 GND (power), 212 VCC (power), 219 GND * (power), 222 VCC (power), 227 GND (power), 240 VCC (power)

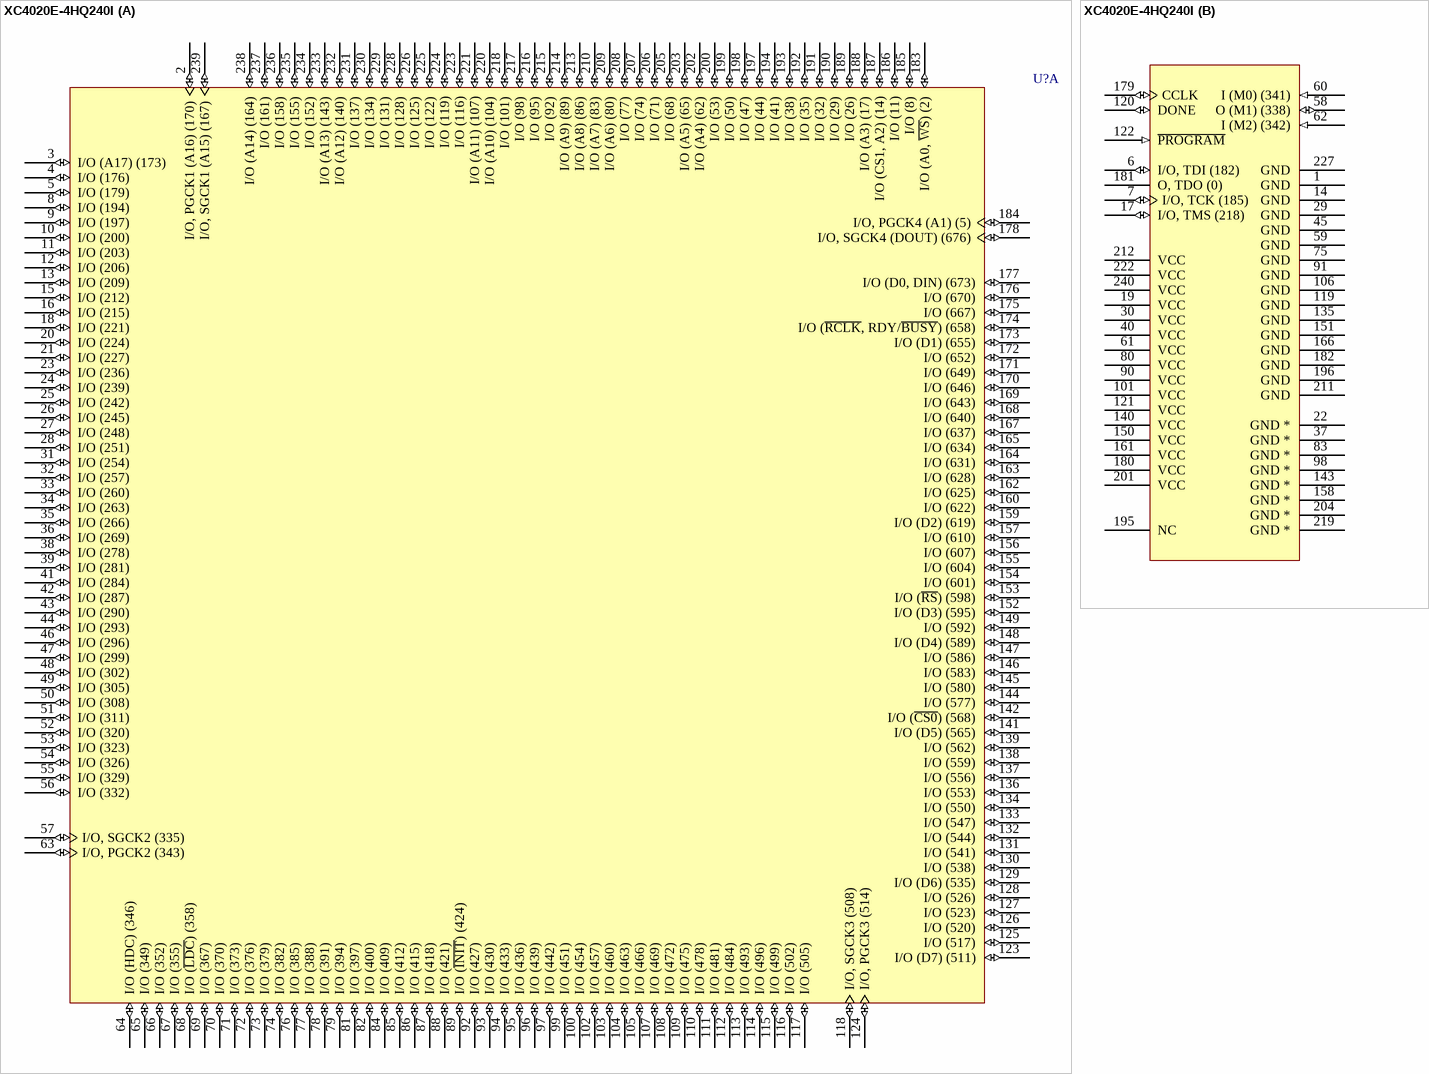
[diagram p240: symbol XC4020E-4HQ240I]

## XC4020E-4HQ240I
designator U?
XC4000E FPGA, 193 I/Os, 240-Pin HQFP, Speed Grade 4, Industrial Grade; Published: 28-Feb-2003; LatestRevisionDate: 13-Apr-2006; LatestRevisionNote: IPC-7351 Footprint Added.; DatasheetVersion: ver1.6, May-1999; PackageVersion: ver1.2, Jun-2004; PackageReference: HQ240; Publisher: Altium Limited; PackageDescription: 240-Pin Heat Sink Quad Flat Pack (HQ240); Supplier 1: Digi-Key; Supplier Part Number 1: XC4020E-4HQ240I-ND; Code_JEDEC: MO-143-GA; ComponentLink1Description: XC4000E Datasheet; ComponentLink1URL: http://www.xilinx.com/support/documentation/data_sheets/4000.pdf; ComponentLink2Description: Discontinuation Notice; ComponentLink2URL: http://www.xilinx.com/support/documentation/customer_notices/xcn09001.pdf; ComponentLink3Description: HQ240 Package Drawing; ComponentLink3URL: http://www.xilinx.com/support/documentation/package_specs/hq240.pdf; ComponentLink4Description: XC4000 Documents; ComponentLink4URL: http://www.xilinx.com/support/documentation/xc4000.htm; ComponentLink5Description: Xilinx.com Home; ComponentLink5URL: http://www.xilinx.com
footprint HQ240_N (Shrink QFP, 240-Leads, Body 32x32mm, Pitch 0.5mm, IPC Medium Density)
footprint HQ240_L (Shrink QFP, 240-Leads, Body 32x32mm, Pitch 0.5mm, IPC High Density)
footprint HQ240_M (Shrink QFP, 240-Leads, Body 32x32mm, Pitch 0.5mm, IPC Low Density)
part A pins: 2 I/O, PGCK1 (A16) (170) (io), 3 I/O (A17) (173) (io), 4 I/O (176) (io), 5 I/O (179) (io), 8 I/O (194) (io), 9 I/O (197) (io), 10 I/O (200) (io), 11 I/O (203) (io), 12 I/O (206) (io), 13 I/O (209) (io), 15 I/O (212) (io), 16 I/O (215) (io), 18 I/O (221) (io), 20 I/O (224) (io), 21 I/O (227) (io), 23 I/O (236) (io), 24 I/O (239) (io), 25 I/O (242) (io), 26 I/O (245) (io), 27 I/O (248) (io), 28 I/O (251) (io), 31 I/O (254) (io), 32 I/O (257) (io), 33 I/O (260) (io), 34 I/O (263) (io), 35 I/O (266) (io), 36 I/O (269) (io), 38 I/O (278) (io), 39 I/O (281) (io), 41 I/O (284) (io), 42 I/O (287) (io), 43 I/O (290) (io), 44 I/O (293) (io), 46 I/O (296) (io), 47 I/O (299) (io), 48 I/O (302) (io), 49 I/O (305) (io), 50 I/O (308) (io), 51 I/O (311) (io), 52 I/O (320) (io), 53 I/O (323) (io), 54 I/O (326) (io), 55 I/O (329) (io), 56 I/O (332) (io), 57 I/O, SGCK2 (335) (io), 63 I/O, PGCK2 (343) (io), 64 I/O (HDC) (346) (io), 65 I/O (349) (io), 66 I/O (352) (io), 67 I/O (355) (io), 68 I/O (~{LDC}) (358) (io), 69 I/O (367) (io), 70 I/O (370) (io), 71 I/O (373) (io), 72 I/O (376) (io), 73 I/O (379) (io), 74 I/O (382) (io), 76 I/O (385) (io), 77 I/O (388) (io), 78 I/O (391) (io), 79 I/O (394) (io), 81 I/O (397) (io), 82 I/O (400) (io), 84 I/O (409) (io), 85 I/O (412) (io), 86 I/O (415) (io), 87 I/O (418) (io), 88 I/O (421) (io), 89 I/O (~{INIT}) (424) (io), 92 I/O (427) (io), 93 I/O (430) (io), 94 I/O (433) (io), 95 I/O (436) (io), 96 I/O (439) (io), 97 I/O (442) (io), 99 I/O (451) (io), 100 I/O (454) (io), 102 I/O (457) (io), 103 I/O (460) (io), 104 I/O (463) (io), 105 I/O (466) (io), 107 I/O (469) (io), 108 I/O (472) (io), 109 I/O (475) (io), 110 I/O (478) (io), 111 I/O (481) (io), 112 I/O (484) (io), 113 I/O (493) (io), 114 I/O (496) (io), 115 I/O (499) (io), 116 I/O (502) (io), 117 I/O (505) (io), 118 I/O, SGCK3 (508) (io), 123 I/O (D7) (511) (io), 124 I/O, PGCK3 (514) (io), 125 I/O (517) (io), 126 I/O (520) (io), 127 I/O (523) (io), 128 I/O (526) (io), 129 I/O (D6) (535) (io), 130 I/O (538) (io), 131 I/O (541) (io), 132 I/O (544) (io), 133 I/O (547) (io), 134 I/O (550) (io), 136 I/O (553) (io), 137 I/O (556) (io), 138 I/O (559) (io), 139 I/O (562) (io), 141 I/O (D5) (565) (io), 142 I/O (~{CS0}) (568) (io), 144 I/O (577) (io), 145 I/O (580) (io), 146 I/O (583) (io), 147 I/O (586) (io), 148 I/O (D4) (589) (io), 149 I/O (592) (io), 152 I/O (D3) (595) (io), 153 I/O (~{RS}) (598) (io), 154 I/O (601) (io), 155 I/O (604) (io), 156 I/O (607) (io), 157 I/O (610) (io), 159 I/O (D2) (619) (io), 160 I/O (622) (io), 162 I/O (625) (io), 163 I/O (628) (io), 164 I/O (631) (io), 165 I/O (634) (io), 167 I/O (637) (io), 168 I/O (640) (io), 169 I/O (643) (io), 170 I/O (646) (io), 171 I/O (649) (io), 172 I/O (652) (io), 173 I/O (D1) (655) (io), 174 I/O (~{RCLK}, RDY/~{BUSY}) (658) (io), 175 I/O (667) (io), 176 I/O (670) (io), 177 I/O (D0, DIN) (673) (io), 178 I/O, SGCK4 (DOUT) (676) (io), 183 I/O (A0, ~{WS}) (2) (io), 184 I/O, PGCK4 (A1) (5) (io), 185 I/O (8) (io), 186 I/O (11) (io), 187 I/O (CS1, A2) (14) (io), 188 I/O (A3) (17) (io), 189 I/O (26) (io), 190 I/O (29) (io), 191 I/O (32) (io), 192 I/O (35) (io), 193 I/O (38) (io), 194 I/O (41) (io), 197 I/O (44) (io), 198 I/O (47) (io), 199 I/O (50) (io), 200 I/O (53) (io), 202 I/O (A4) (62) (io), 203 I/O (A5) (65) (io), 205 I/O (68) (io), 206 I/O (71) (io), 207 I/O (74) (io), 208 I/O (77) (io), 209 I/O (A6) (80) (io), 210 I/O (A7) (83) (io), 213 I/O (A8) (86) (io), 214 I/O (A9) (89) (io), 215 I/O (92) (io), 216 I/O (95) (io), 217 I/O (98) (io), 218 I/O (101) (io), 220 I/O (A10) (104) (io), 221 I/O (A11) (107) (io), 223 I/O (116) (io), 224 I/O (119) (io), 225 I/O (122) (io), 226 I/O (125) (io), 228 I/O (128) (io), 229 I/O (131) (io), 230 I/O (134) (io), 231 I/O (137) (io), 232 I/O (A12) (140) (io), 233 I/O (A13) (143) (io), 234 I/O (152) (io), 235 I/O (155) (io), 236 I/O (158) (io), 237 I/O (161) (io), 238 I/O (A14) (164) (io), 239 I/O, SGCK1 (A15) (167) (io)
part B pins: 1 GND (power), 6 I/O, TDI (182) (io), 7 I/O, TCK (185) (io), 14 GND (power), 17 I/O, TMS (218) (io), 19 VCC (power), 22 GND * (power), 29 GND (power), 30 VCC (power), 37 GND * (power), 40 VCC (power), 45 GND (power), 58 O (M1) (338) (io), 59 GND (power), 60 I (M0) (341) (in), 61 VCC (power), 62 I (M2) (342) (in), 75 GND (power), 80 VCC (power), 83 GND * (power), 90 VCC (power), 91 GND (power), 98 GND * (power), 101 VCC (power), 106 GND (power), 119 GND (power), 120 DONE (io), 121 VCC (power), 122 ~{PROGRAM} (in), 135 GND (power), 140 VCC (power), 143 GND * (power), 150 VCC (power), 151 GND (power), 158 GND * (power), 161 VCC (power), 166 GND (power), 179 CCLK (io), 180 VCC (power), 181 O, TDO (0) (hiz), 182 GND (power), 195 NC, 196 GND (power), 201 VCC (power), 204 GND * (power), 211 GND (power), 212 VCC (power), 219 GND * (power), 222 VCC (power), 227 GND (power), 240 VCC (power)

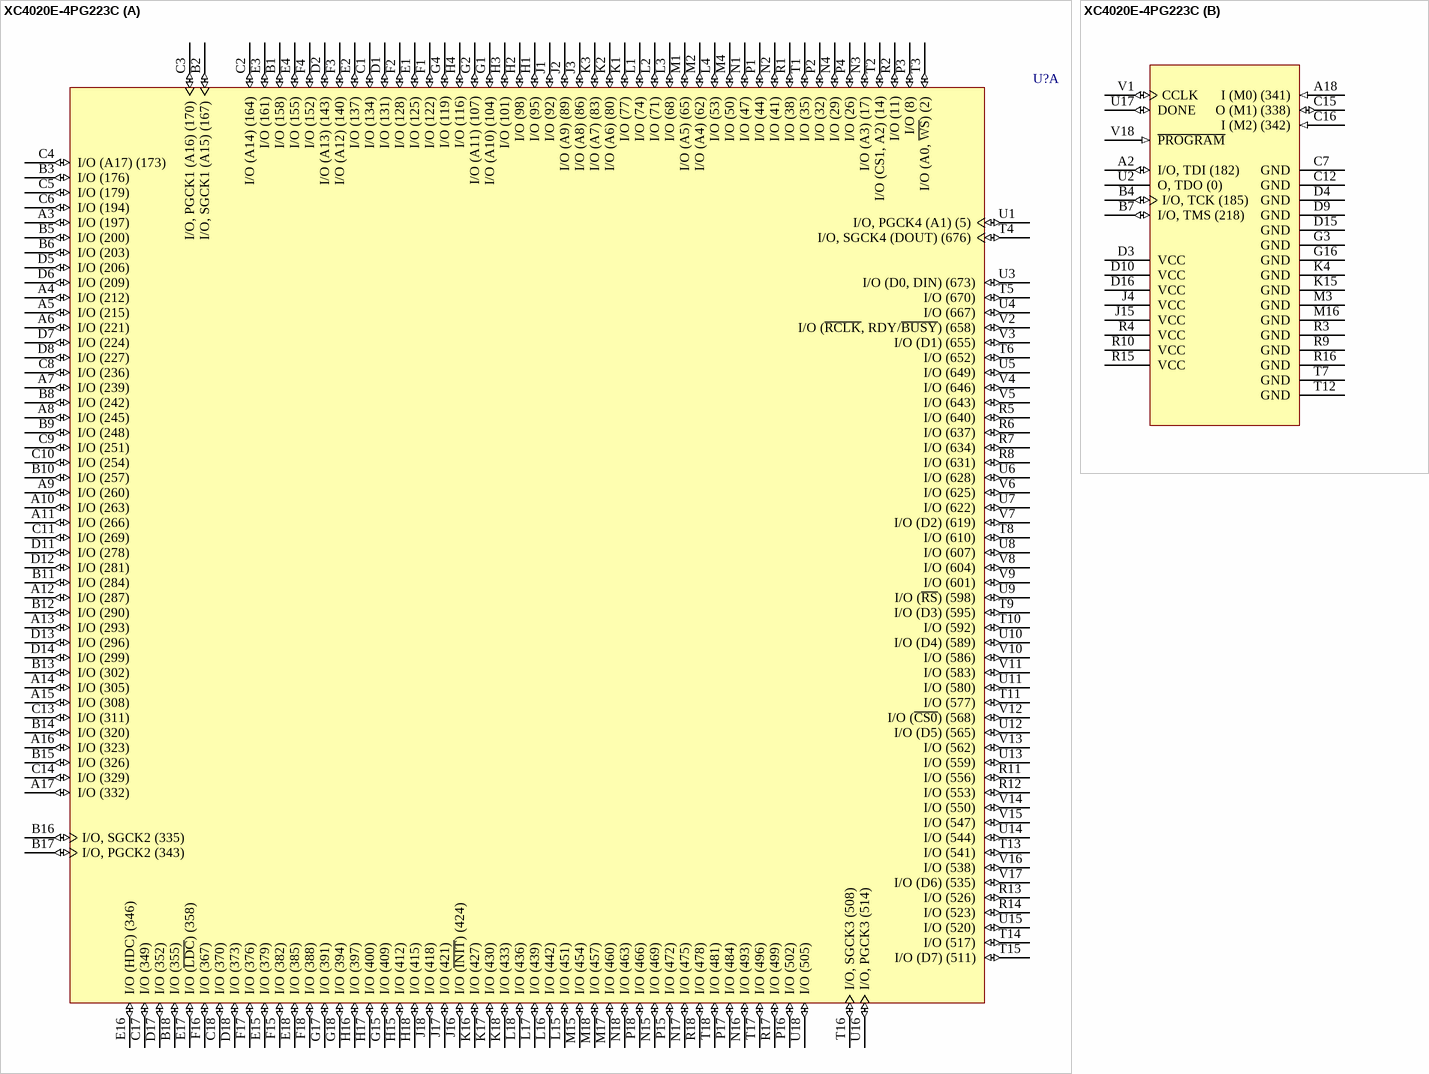
[diagram p241: symbol XC4020E-4PG223C]

## XC4020E-4PG223C
designator U?
XC4000E FPGA, 192 I/Os, 223-Pin PGA, Speed Grade 4, Commercial Grade; Published: 28-Feb-2003; LatestRevisionDate: 04-Mar-2005; LatestRevisionNote: Stylized 3D Model Added.; DatasheetVersion: ver1.6, May-1999; PackageVersion: ver1.0, Jun-2000; PackageReference: PG223; Publisher: Altium Limited; PackageDescription: 223-Pin Ceramic Pin Grid Array (PG223); Supplier 1: Digi-Key; Supplier Part Number 1: XC4020E-4PG223C-ND; ComponentLink1Description: XC4000E Datasheet; ComponentLink1URL: http://www.xilinx.com/support/documentation/data_sheets/4000.pdf; ComponentLink2Description: Discontinuation Notice; ComponentLink2URL: http://www.xilinx.com/support/documentation/customer_notices/pdn2002-03.pdf; ComponentLink3Description: PG223 Package Drawing; ComponentLink3URL: http://www.xilinx.com/support/documentation/package_specs/pg223.pdf; ComponentLink4Description: XC4000 Documents; ComponentLink4URL: http://www.xilinx.com/support/documentation/xc4000.htm; ComponentLink5Description: Xilinx.com Home; ComponentLink5URL: http://www.xilinx.com
footprint PG223 (PGA, 223-Leads, Body 47x47mm, Pitch 2.54mm)
part A pins: A3 I/O (197) (io), A4 I/O (212) (io), A5 I/O (215) (io), A6 I/O (221) (io), A7 I/O (239) (io), A8 I/O (245) (io), A9 I/O (260) (io), A10 I/O (263) (io), A11 I/O (266) (io), A12 I/O (287) (io), A13 I/O (293) (io), A14 I/O (305) (io), A15 I/O (308) (io), A16 I/O (323) (io), A17 I/O (332) (io), B1 I/O (158) (io), B2 I/O, SGCK1 (A15) (167) (io), B3 I/O (176) (io), B5 I/O (200) (io), B6 I/O (203) (io), B8 I/O (242) (io), B9 I/O (248) (io), B10 I/O (257) (io), B11 I/O (284) (io), B12 I/O (290) (io), B13 I/O (302) (io), B14 I/O (320) (io), B15 I/O (326) (io), B16 I/O, SGCK2 (335) (io), B17 I/O, PGCK2 (343) (io), B18 I/O (355) (io), C1 I/O (134) (io), C2 I/O (A14) (164) (io), C3 I/O, PGCK1 (A16) (170) (io), C4 I/O (A17) (173) (io), C5 I/O (179) (io), C6 I/O (194) (io), C8 I/O (236) (io), C9 I/O (251) (io), C10 I/O (254) (io), C11 I/O (269) (io), C13 I/O (311) (io), C14 I/O (329) (io), C17 I/O (349) (io), C18 I/O (370) (io), D1 I/O (131) (io), D2 I/O (A13) (143) (io), D5 I/O (206) (io), D6 I/O (209) (io), D7 I/O (224) (io), D8 I/O (227) (io), D11 I/O (278) (io), D12 I/O (281) (io), D13 I/O (296) (io), D14 I/O (299) (io), D17 I/O (352) (io), D18 I/O (373) (io), E1 I/O (125) (io), E2 I/O (137) (io), E3 I/O (161) (io), E4 I/O (155) (io), E15 I/O (379) (io), E16 I/O (HDC) (346) (io), E17 I/O (~{LDC}) (358) (io), E18 I/O (385) (io), F1 I/O (122) (io), F2 I/O (128) (io), F3 I/O (A12) (140) (io), F4 I/O (152) (io), F15 I/O (382) (io), F16 I/O (367) (io), F17 I/O (376) (io), F18 I/O (388) (io), G1 I/O (A10) (104) (io), G2 I/O (A11) (107) (io), G4 I/O (119) (io), G15 I/O (409) (io), G17 I/O (391) (io), G18 I/O (394) (io), H1 I/O (95) (io), H2 I/O (98) (io), H3 I/O (101) (io), H4 I/O (116) (io), H15 I/O (412) (io), H16 I/O (397) (io), H17 I/O (400) (io), H18 I/O (415) (io), J1 I/O (92) (io), J2 I/O (A9) (89) (io), J3 I/O (A8) (86) (io), J16 I/O (~{INIT}) (424) (io), J17 I/O (421) (io), J18 I/O (418) (io), K1 I/O (77) (io), K2 I/O (A6) (80) (io), K3 I/O (A7) (83) (io), K16 I/O (427) (io), K17 I/O (430) (io), K18 I/O (433) (io), L1 I/O (74) (io), L2 I/O (71) (io), L3 I/O (68) (io), L4 I/O (53) (io), L15 I/O (451) (io), L16 I/O (442) (io), L17 I/O (439) (io), L18 I/O (436) (io), M1 I/O (A5) (65) (io), M2 I/O (A4) (62) (io), M4 I/O (50) (io), M15 I/O (454) (io), M17 I/O (460) (io), M18 I/O (457) (io), N1 I/O (47) (io), N2 I/O (41) (io), N3 I/O (A3) (17) (io), N4 I/O (29) (io), N15 I/O (469) (io), N16 I/O (493) (io), N17 I/O (475) (io), N18 I/O (463) (io), P1 I/O (44) (io), P2 I/O (32) (io), P3 I/O (8) (io), P4 I/O (26) (io), P15 I/O (472) (io), P16 I/O (502) (io), P17 I/O (484) (io), P18 I/O (466) (io), R1 I/O (38) (io), R2 I/O (11) (io), R5 I/O (640) (io), R6 I/O (637) (io), R7 I/O (634) (io), R8 I/O (631) (io), R11 I/O (556) (io), R12 I/O (553) (io), R13 I/O (526) (io), R14 I/O (523) (io), R17 I/O (499) (io), R18 I/O (478) (io), T1 I/O (35) (io), T2 I/O (CS1, A2) (14) (io), T3 I/O (A0, ~{WS}) (2) (io), T4 I/O, SGCK4 (DOUT) (676) (io), T5 I/O (670) (io), T6 I/O (652) (io), T8 I/O (610) (io), T9 I/O (D3) (595) (io), T10 I/O (592) (io), T11 I/O (577) (io), T13 I/O (541) (io), T14 I/O (517) (io), T15 I/O (D7) (511) (io), T16 I/O, SGCK3 (508) (io), T17 I/O (496) (io), T18 I/O (481) (io), U1 I/O, PGCK4 (A1) (5) (io), U3 I/O (D0, DIN) (673) (io), U4 I/O (667) (io), U5 I/O (649) (io), U6 I/O (628) (io), U7 I/O (622) (io), U8 I/O (607) (io), U9 I/O (~{RS}) (598) (io), U10 I/O (D4) (589) (io), U11 I/O (580) (io), U12 I/O (D5) (565) (io), U13 I/O (559) (io), U14 I/O (544) (io), U15 I/O (520) (io), U16 I/O, PGCK3 (514) (io), U18 I/O (505) (io), V2 I/O (~{RCLK}, RDY/~{BUSY}) (658) (io), V3 I/O (D1) (655) (io), V4 I/O (646) (io), V5 I/O (643) (io), V6 I/O (625) (io), V7 I/O (D2) (619) (io), V8 I/O (604) (io), V9 I/O (601) (io), V10 I/O (586) (io), V11 I/O (583) (io), V12 I/O (~{CS0}) (568) (io), V13 I/O (562) (io), V14 I/O (550) (io), V15 I/O (547) (io), V16 I/O (538) (io), V17 I/O (D6) (535) (io)
part B pins: A2 I/O, TDI (182) (io), A18 I (M0) (341) (in), B4 I/O, TCK (185) (io), B7 I/O, TMS (218) (io), C7 GND (power), C12 GND (power), C15 O (M1) (338) (io), C16 I (M2) (342) (in), D3 VCC (power), D4 GND (power), D9 GND (power), D10 VCC (power), D15 GND (power), D16 VCC (power), G3 GND (power), G16 GND (power), J4 VCC (power), J15 VCC (power), K4 GND (power), K15 GND (power), M3 GND (power), M16 GND (power), R3 GND (power), R4 VCC (power), R9 GND (power), R10 VCC (power), R15 VCC (power), R16 GND (power), T7 GND (power), T12 GND (power), U2 O, TDO (0) (hiz), U17 DONE (io), V1 CCLK (io), V18 ~{PROGRAM} (in)

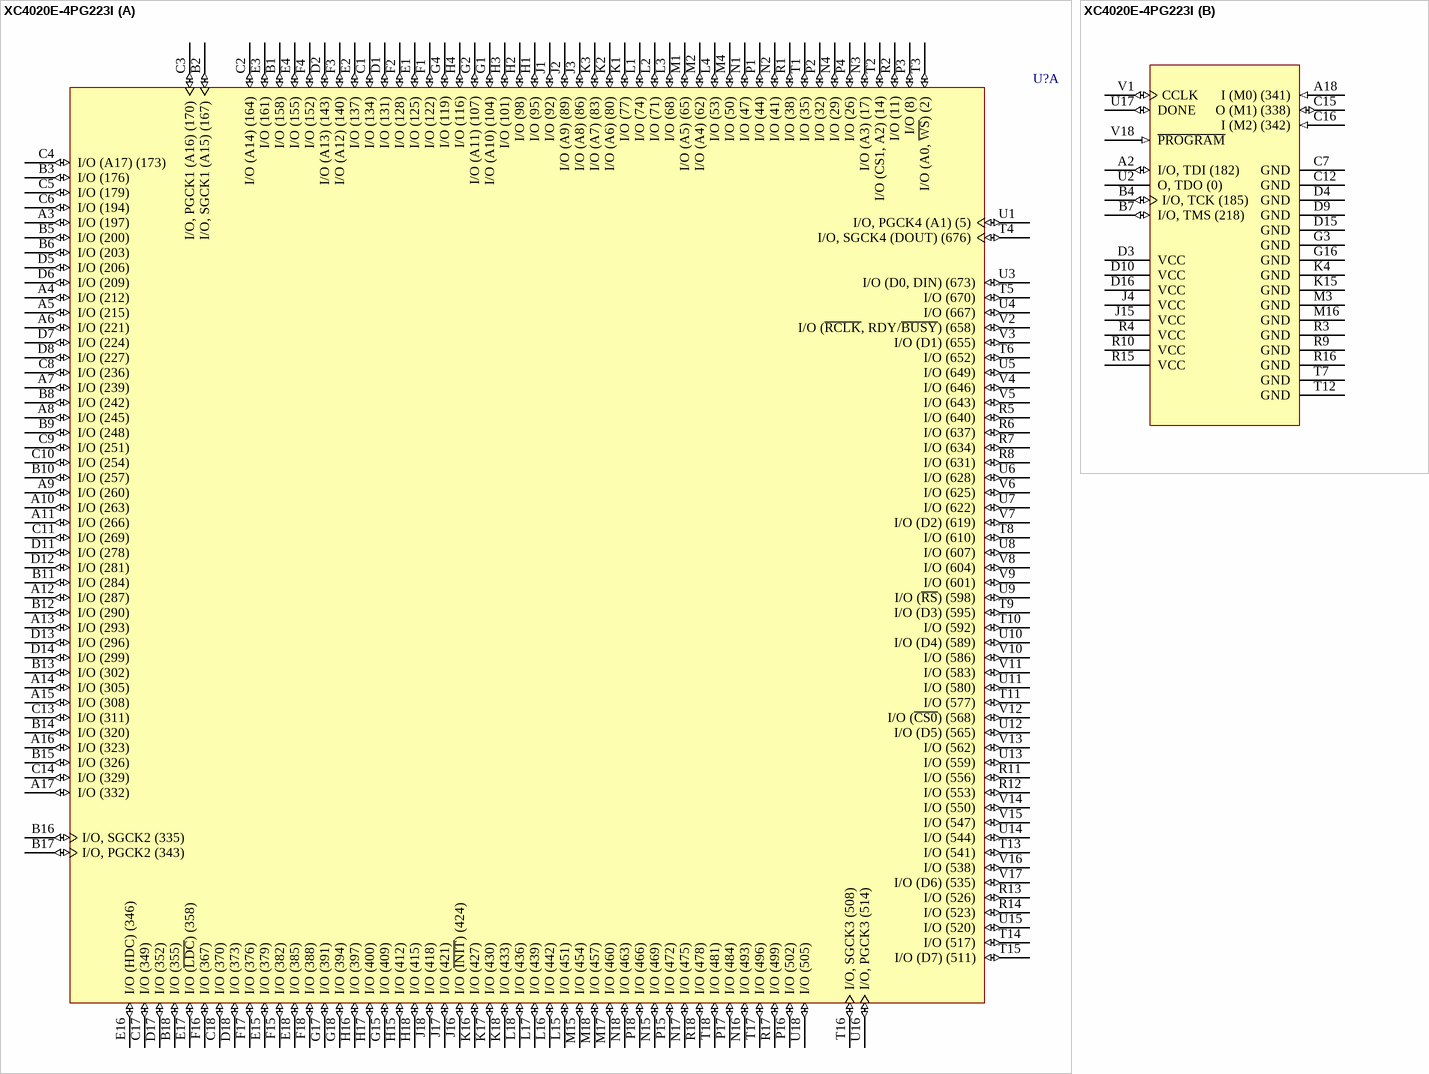
[diagram p242: symbol XC4020E-4PG223I]

## XC4020E-4PG223I
designator U?
XC4000E FPGA, 192 I/Os, 223-Pin PGA, Speed Grade 4, Industrial Grade; Published: 28-Feb-2003; LatestRevisionDate: 04-Mar-2005; LatestRevisionNote: Stylized 3D Model Added.; DatasheetVersion: ver1.6, May-1999; PackageVersion: ver1.0, Jun-2000; PackageReference: PG223; Publisher: Altium Limited; PackageDescription: 223-Pin Ceramic Pin Grid Array (PG223); Supplier 1: Digi-Key; Supplier Part Number 1: XC4020E-4PG223I-ND; ComponentLink1Description: XC4000E Datasheet; ComponentLink1URL: http://www.xilinx.com/support/documentation/data_sheets/4000.pdf; ComponentLink2Description: Discontinuation Notice; ComponentLink2URL: http://www.xilinx.com/support/documentation/customer_notices/pdn2002-03.pdf; ComponentLink3Description: PG223 Package Drawing; ComponentLink3URL: http://www.xilinx.com/support/documentation/package_specs/pg223.pdf; ComponentLink4Description: XC4000 Documents; ComponentLink4URL: http://www.xilinx.com/support/documentation/xc4000.htm; ComponentLink5Description: Xilinx.com Home; ComponentLink5URL: http://www.xilinx.com
footprint PG223 (PGA, 223-Leads, Body 47x47mm, Pitch 2.54mm)
part A pins: A3 I/O (197) (io), A4 I/O (212) (io), A5 I/O (215) (io), A6 I/O (221) (io), A7 I/O (239) (io), A8 I/O (245) (io), A9 I/O (260) (io), A10 I/O (263) (io), A11 I/O (266) (io), A12 I/O (287) (io), A13 I/O (293) (io), A14 I/O (305) (io), A15 I/O (308) (io), A16 I/O (323) (io), A17 I/O (332) (io), B1 I/O (158) (io), B2 I/O, SGCK1 (A15) (167) (io), B3 I/O (176) (io), B5 I/O (200) (io), B6 I/O (203) (io), B8 I/O (242) (io), B9 I/O (248) (io), B10 I/O (257) (io), B11 I/O (284) (io), B12 I/O (290) (io), B13 I/O (302) (io), B14 I/O (320) (io), B15 I/O (326) (io), B16 I/O, SGCK2 (335) (io), B17 I/O, PGCK2 (343) (io), B18 I/O (355) (io), C1 I/O (134) (io), C2 I/O (A14) (164) (io), C3 I/O, PGCK1 (A16) (170) (io), C4 I/O (A17) (173) (io), C5 I/O (179) (io), C6 I/O (194) (io), C8 I/O (236) (io), C9 I/O (251) (io), C10 I/O (254) (io), C11 I/O (269) (io), C13 I/O (311) (io), C14 I/O (329) (io), C17 I/O (349) (io), C18 I/O (370) (io), D1 I/O (131) (io), D2 I/O (A13) (143) (io), D5 I/O (206) (io), D6 I/O (209) (io), D7 I/O (224) (io), D8 I/O (227) (io), D11 I/O (278) (io), D12 I/O (281) (io), D13 I/O (296) (io), D14 I/O (299) (io), D17 I/O (352) (io), D18 I/O (373) (io), E1 I/O (125) (io), E2 I/O (137) (io), E3 I/O (161) (io), E4 I/O (155) (io), E15 I/O (379) (io), E16 I/O (HDC) (346) (io), E17 I/O (~{LDC}) (358) (io), E18 I/O (385) (io), F1 I/O (122) (io), F2 I/O (128) (io), F3 I/O (A12) (140) (io), F4 I/O (152) (io), F15 I/O (382) (io), F16 I/O (367) (io), F17 I/O (376) (io), F18 I/O (388) (io), G1 I/O (A10) (104) (io), G2 I/O (A11) (107) (io), G4 I/O (119) (io), G15 I/O (409) (io), G17 I/O (391) (io), G18 I/O (394) (io), H1 I/O (95) (io), H2 I/O (98) (io), H3 I/O (101) (io), H4 I/O (116) (io), H15 I/O (412) (io), H16 I/O (397) (io), H17 I/O (400) (io), H18 I/O (415) (io), J1 I/O (92) (io), J2 I/O (A9) (89) (io), J3 I/O (A8) (86) (io), J16 I/O (~{INIT}) (424) (io), J17 I/O (421) (io), J18 I/O (418) (io), K1 I/O (77) (io), K2 I/O (A6) (80) (io), K3 I/O (A7) (83) (io), K16 I/O (427) (io), K17 I/O (430) (io), K18 I/O (433) (io), L1 I/O (74) (io), L2 I/O (71) (io), L3 I/O (68) (io), L4 I/O (53) (io), L15 I/O (451) (io), L16 I/O (442) (io), L17 I/O (439) (io), L18 I/O (436) (io), M1 I/O (A5) (65) (io), M2 I/O (A4) (62) (io), M4 I/O (50) (io), M15 I/O (454) (io), M17 I/O (460) (io), M18 I/O (457) (io), N1 I/O (47) (io), N2 I/O (41) (io), N3 I/O (A3) (17) (io), N4 I/O (29) (io), N15 I/O (469) (io), N16 I/O (493) (io), N17 I/O (475) (io), N18 I/O (463) (io), P1 I/O (44) (io), P2 I/O (32) (io), P3 I/O (8) (io), P4 I/O (26) (io), P15 I/O (472) (io), P16 I/O (502) (io), P17 I/O (484) (io), P18 I/O (466) (io), R1 I/O (38) (io), R2 I/O (11) (io), R5 I/O (640) (io), R6 I/O (637) (io), R7 I/O (634) (io), R8 I/O (631) (io), R11 I/O (556) (io), R12 I/O (553) (io), R13 I/O (526) (io), R14 I/O (523) (io), R17 I/O (499) (io), R18 I/O (478) (io), T1 I/O (35) (io), T2 I/O (CS1, A2) (14) (io), T3 I/O (A0, ~{WS}) (2) (io), T4 I/O, SGCK4 (DOUT) (676) (io), T5 I/O (670) (io), T6 I/O (652) (io), T8 I/O (610) (io), T9 I/O (D3) (595) (io), T10 I/O (592) (io), T11 I/O (577) (io), T13 I/O (541) (io), T14 I/O (517) (io), T15 I/O (D7) (511) (io), T16 I/O, SGCK3 (508) (io), T17 I/O (496) (io), T18 I/O (481) (io), U1 I/O, PGCK4 (A1) (5) (io), U3 I/O (D0, DIN) (673) (io), U4 I/O (667) (io), U5 I/O (649) (io), U6 I/O (628) (io), U7 I/O (622) (io), U8 I/O (607) (io), U9 I/O (~{RS}) (598) (io), U10 I/O (D4) (589) (io), U11 I/O (580) (io), U12 I/O (D5) (565) (io), U13 I/O (559) (io), U14 I/O (544) (io), U15 I/O (520) (io), U16 I/O, PGCK3 (514) (io), U18 I/O (505) (io), V2 I/O (~{RCLK}, RDY/~{BUSY}) (658) (io), V3 I/O (D1) (655) (io), V4 I/O (646) (io), V5 I/O (643) (io), V6 I/O (625) (io), V7 I/O (D2) (619) (io), V8 I/O (604) (io), V9 I/O (601) (io), V10 I/O (586) (io), V11 I/O (583) (io), V12 I/O (~{CS0}) (568) (io), V13 I/O (562) (io), V14 I/O (550) (io), V15 I/O (547) (io), V16 I/O (538) (io), V17 I/O (D6) (535) (io)
part B pins: A2 I/O, TDI (182) (io), A18 I (M0) (341) (in), B4 I/O, TCK (185) (io), B7 I/O, TMS (218) (io), C7 GND (power), C12 GND (power), C15 O (M1) (338) (io), C16 I (M2) (342) (in), D3 VCC (power), D4 GND (power), D9 GND (power), D10 VCC (power), D15 GND (power), D16 VCC (power), G3 GND (power), G16 GND (power), J4 VCC (power), J15 VCC (power), K4 GND (power), K15 GND (power), M3 GND (power), M16 GND (power), R3 GND (power), R4 VCC (power), R9 GND (power), R10 VCC (power), R15 VCC (power), R16 GND (power), T7 GND (power), T12 GND (power), U2 O, TDO (0) (hiz), U17 DONE (io), V1 CCLK (io), V18 ~{PROGRAM} (in)

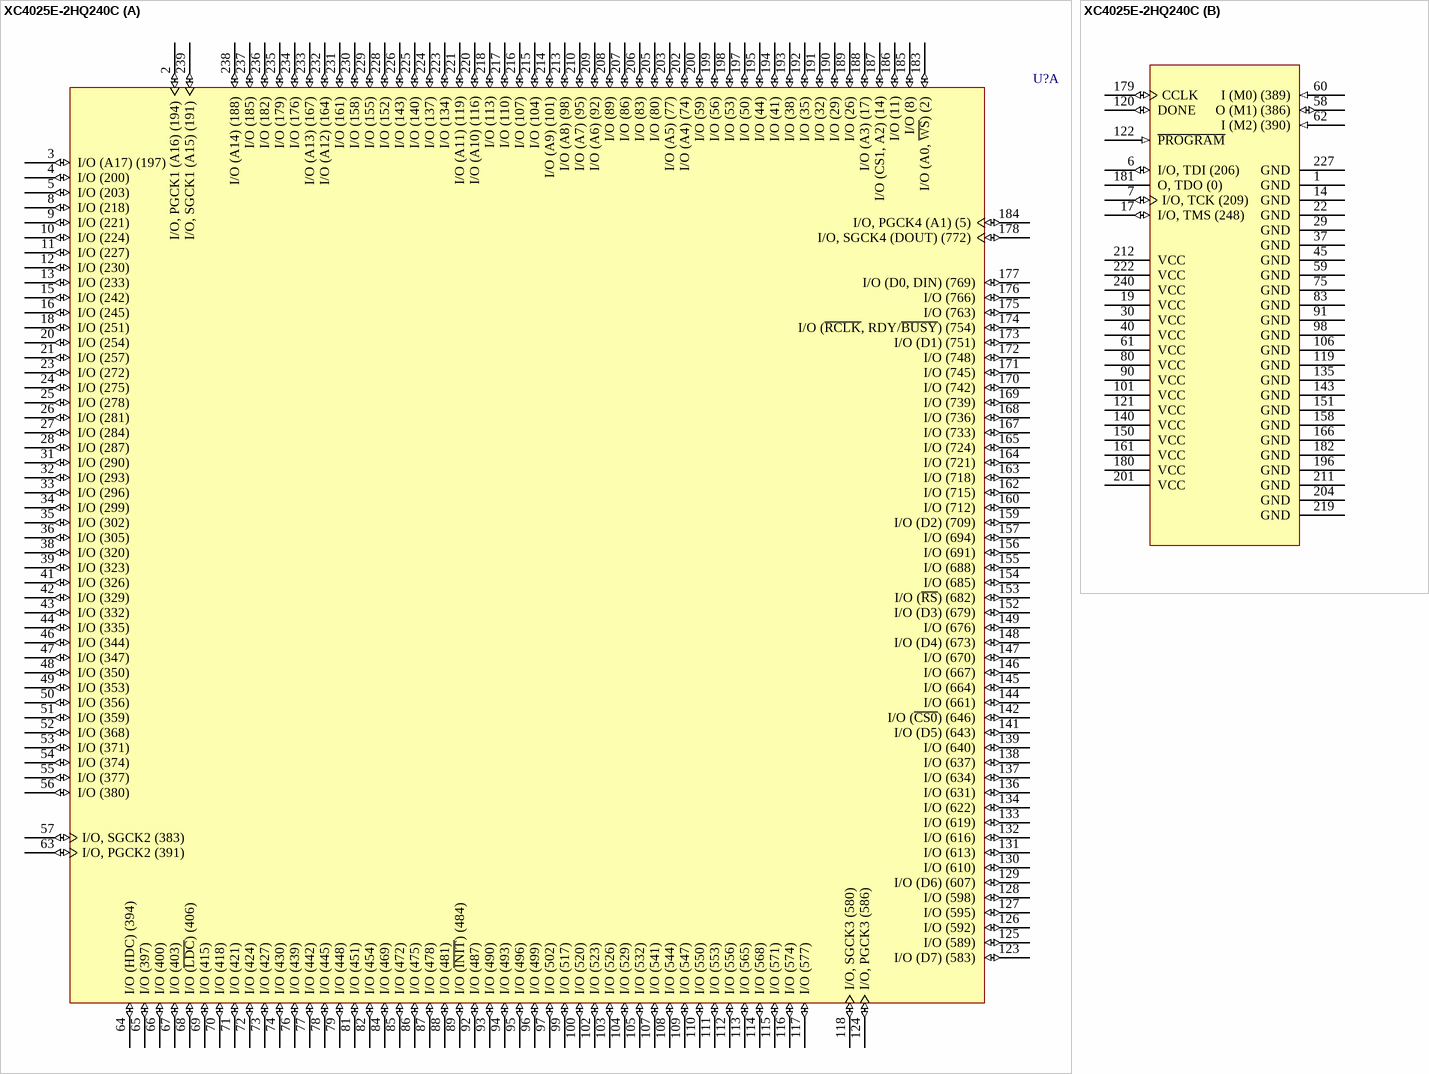
[diagram p243: symbol XC4025E-2HQ240C]